# Altium schematic symbol library kmilo17pet-dsPIC33F.SchLib: 775 symbols (part 24 of 44)
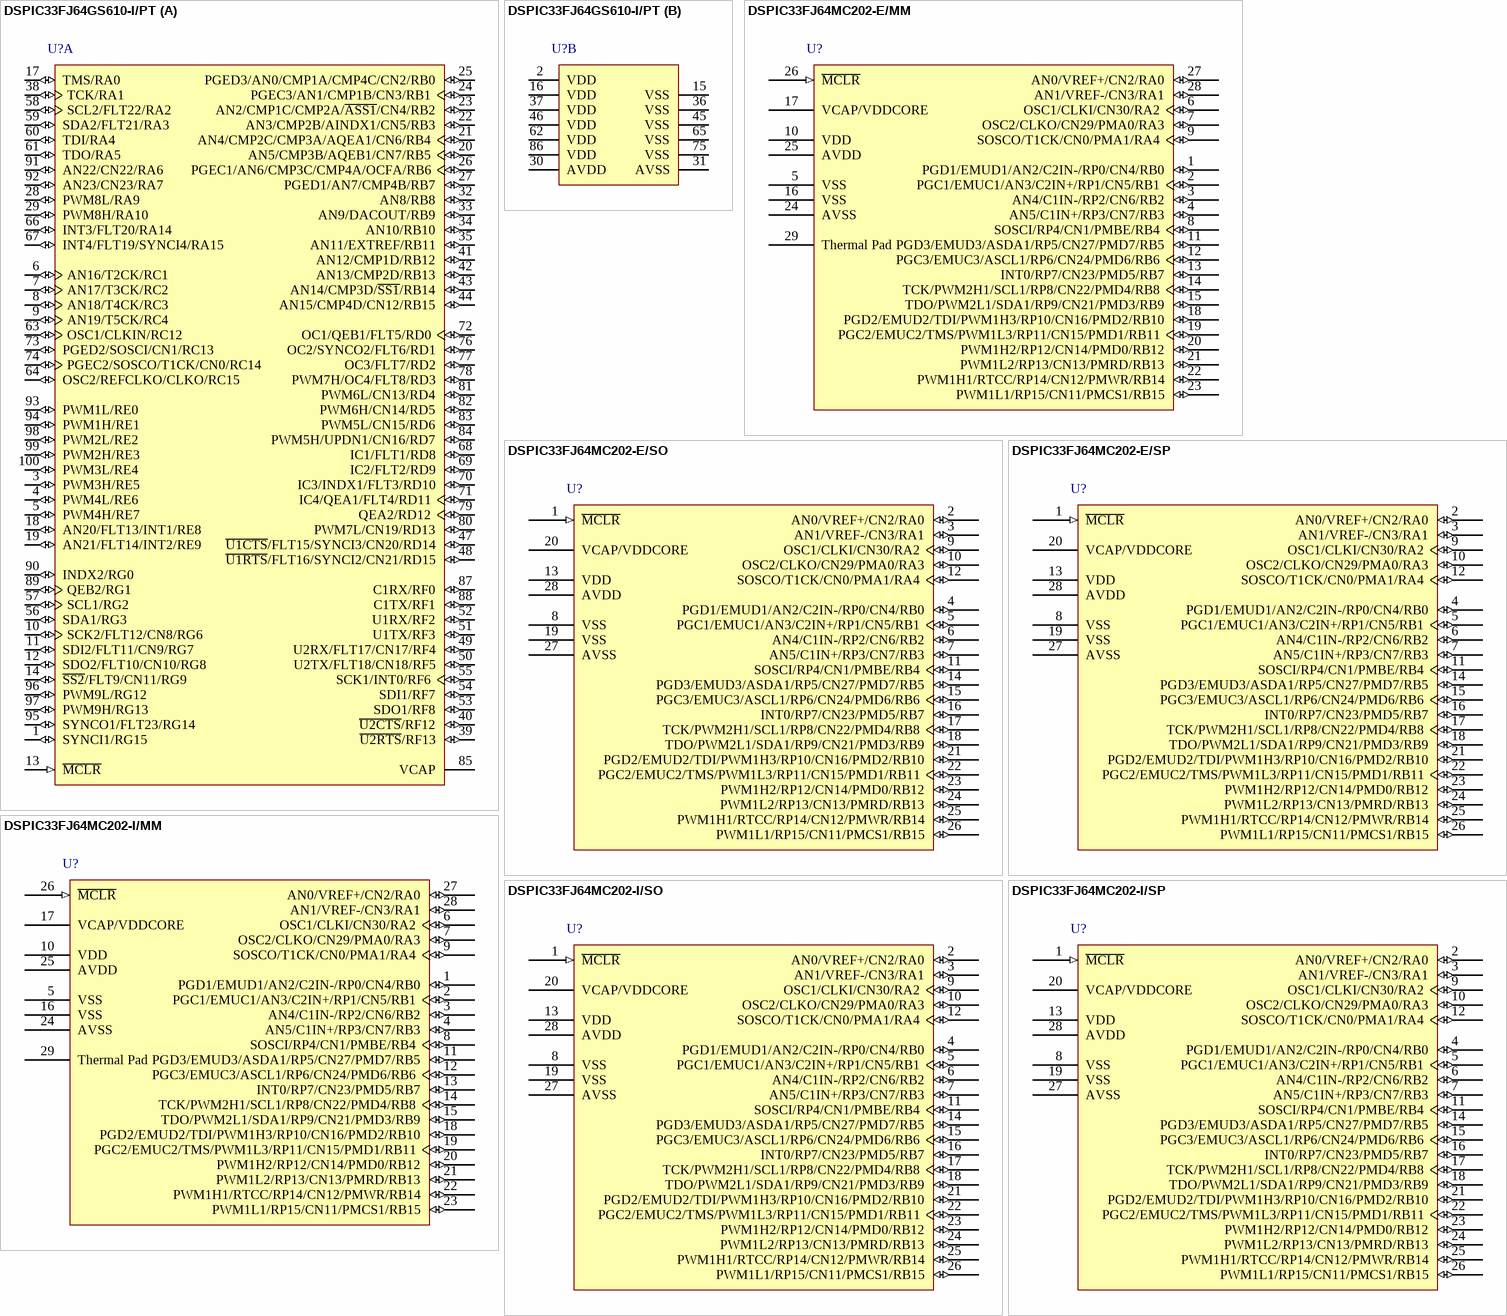
[diagram p181: symbols DSPIC33FJ64GS610-I/PT to DSPIC33FJ64MC202-I/SP]

## DSPIC33FJ64GS610-I/PT
designator U?
16-Bit Digital Signal Controller with High-Speed PWM, ADC and Comparators, 50 MIPS, 85 I/O, GPIO, -40 to 85 degC, 100-pin TQFP (PT100), Tray; Manufacturer: Microchip; PartNumber: DSPIC33FJ64GS610-I/PT; DatasheetVersion: Rev. E; PackageVersion: C04-100B; PackageReference: TQFP-PT100; PackageDescription: 100-Lead Plastic Thin Quad Flatpack, 12 x 12 mm Body, 0.4 mm Pitch; Supplier 1: Digi-Key; Supplier Part Number 1: DSPIC33FJ64GS610-I/PT-ND; Supplier 2: Farnell; Supplier Part Number 2: 1823294MPKG; Supplier 3: Farnell; Supplier Part Number 3: 1823294; Supplier 4: Newark; Supplier Part Number 4: 08R1566; Supplier 5: Mouser; Supplier Part Number 5: 579-33FJ64GS610-I/PT; Mounting Technology: Surface Mount; ComponentLink1Description: Manufacturer URL; ComponentLink1URL: http://www.microchip.com; ComponentLink2Description: Datasheet; ComponentLink2URL: http://ww1.microchip.com/downloads/en/DeviceDoc/70591e.pdf; ComponentLink3Description: Package Specification; ComponentLink3URL: http://www.microchip.com/stellent/groups/techpub_sg/documents/packagingspec/en012702.pdf; ComponentLink4Description: Product URL; ComponentLink4URL: http://www.microchip.com/dsPIC33FJ64GS610
footprint MCHP-TQFP-PT100_N (QFP, 100-Leads, Body 12x12mm, Pitch 0.4mm, IPC Medium Density)
footprint MCHP-TQFP-PT100_L (QFP, 100-Leads, Body 12x12mm, Pitch 0.4mm, IPC High Density)
footprint MCHP-TQFP-PT100_M (TQFP, 100-Leads, Body 12x12mm, Pitch 0.4mm, IPC Low Density)
part A pins: 1 SYNCI1/RG15 (io), 3 PWM3H/RE5 (io), 4 PWM4L/RE6 (io), 5 PWM4H/RE7 (io), 6 AN16/T2CK/RC1 (io), 7 AN17/T3CK/RC2 (io), 8 AN18/T4CK/RC3 (io), 9 AN19/T5CK/RC4 (io), 10 SCK2/FLT12/CN8/RG6 (io), 11 SDI2/FLT11/CN9/RG7 (io), 12 SDO2/FLT10/CN10/RG8 (io), 13 ~{MCLR} (in) "Master Clear (Reset) input. This pin is an active-low Reset to the device.", 14 ~{SS2}/FLT9/CN11/RG9 (io), 17 TMS/RA0 (io), 18 AN20/FLT13/INT1/RE8 (io), 19 AN21/FLT14/INT2/RE9 (io), 20 AN5/CMP3B/AQEB1/CN7/RB5 (io), 21 AN4/CMP2C/CMP3A/AQEA1/CN6/RB4 (io), 22 AN3/CMP2B/AINDX1/CN5/RB3 (io), 23 AN2/CMP1C/CMP2A/~{ASS1}/CN4/RB2 (io), 24 PGEC3/AN1/CMP1B/CN3/RB1 (io), 25 PGED3/AN0/CMP1A/CMP4C/CN2/RB0 (io), 26 PGEC1/AN6/CMP3C/CMP4A/OCFA/RB6 (io), 27 PGED1/AN7/CMP4B/RB7 (io), 28 PWM8L/RA9 (io), 29 PWM8H/RA10 (io), 32 AN8/RB8 (io), 33 AN9/DACOUT/RB9 (io), 34 AN10/RB10 (io), 35 AN11/EXTREF/RB11 (io), 38 TCK/RA1 (io), 39 ~{U2RTS}/RF13 (io), 40 ~{U2CTS}/RF12 (io), 41 AN12/CMP1D/RB12 (io), 42 AN13/CMP2D/RB13 (io), 43 AN14/CMP3D/~{SS1}/RB14 (io), 44 AN15/CMP4D/CN12/RB15 (io), 47 ~{U1CTS}/FLT15/SYNCI3/CN20/RD14 (io), 48 ~{U1RTS}/FLT16/SYNCI2/CN21/RD15 (io), 49 U2RX/FLT17/CN17/RF4 (io), 50 U2TX/FLT18/CN18/RF5 (io), 51 U1TX/RF3 (io), 52 U1RX/RF2 (io), 53 SDO1/RF8 (io), 54 SDI1/RF7 (io), 55 SCK1/INT0/RF6 (io), 56 SDA1/RG3 (io), 57 SCL1/RG2 (io), 58 SCL2/FLT22/RA2 (io), 59 SDA2/FLT21/RA3 (io), 60 TDI/RA4 (io), 61 TDO/RA5 (io), 63 OSC1/CLKIN/RC12 (io), 64 OSC2/REFCLKO/CLKO/RC15 (io), 66 INT3/FLT20/RA14 (io), 67 INT4/FLT19/SYNCI4/RA15 (io), 68 IC1/FLT1/RD8 (io), 69 IC2/FLT2/RD9 (io), 70 IC3/INDX1/FLT3/RD10 (io), 71 IC4/QEA1/FLT4/RD11 (io), 72 OC1/QEB1/FLT5/RD0 (io), 73 PGED2/SOSCI/CN1/RC13 (io), 74 PGEC2/SOSCO/T1CK/CN0/RC14 (io), 76 OC2/SYNCO2/FLT6/RD1 (io), 77 OC3/FLT7/RD2 (io), 78 PWM7H/OC4/FLT8/RD3 (io), 79 QEA2/RD12 (io), 80 PWM7L/CN19/RD13 (io), 81 PWM6L/CN13/RD4 (io), 82 PWM6H/CN14/RD5 (io), 83 PWM5L/CN15/RD6 (io), 84 PWM5H/UPDN1/CN16/RD7 (io), 85 VCAP "CPU logic filter capacitor connection.", 87 C1RX/RF0 (io), 88 C1TX/RF1 (io), 89 QEB2/RG1 (io), 90 INDX2/RG0 (io), 91 AN22/CN22/RA6 (io), 92 AN23/CN23/RA7 (io), 93 PWM1L/RE0 (io), 94 PWM1H/RE1 (io), 95 SYNCO1/FLT23/RG14 (io), 96 PWM9L/RG12 (io), 97 PWM9H/RG13 (io), 98 PWM2L/RE2 (io), 99 PWM2H/RE3 (io), 100 PWM3L/RE4 (io)
part B pins: 2 VDD (power) "Positive supply for peripheral logic and I/O pins.", 15 VSS (power) "Ground reference for logic and I/O pins.", 16 VDD (power) "Positive supply for peripheral logic and I/O pins.", 30 AVDD (power) "Positive supply for analog modules. This pin must be connected at all times.", 31 AVSS (power) "Ground reference for analog modules.", 36 VSS (power) "Ground reference for logic and I/O pins.", 37 VDD (power) "Positive supply for peripheral logic and I/O pins.", 45 VSS (power) "Ground reference for logic and I/O pins.", 46 VDD (power) "Positive supply for peripheral logic and I/O pins.", 62 VDD (power) "Positive supply for peripheral logic and I/O pins.", 65 VSS (power) "Ground reference for logic and I/O pins.", 75 VSS (power) "Ground reference for logic and I/O pins.", 86 VDD (power) "Positive supply for peripheral logic and I/O pins."

## DSPIC33FJ64MC202-E/MM
designator U?
High-Performance 16-bit Digital Signal Controller, 64 KB Flash, 8 KB RAM, 28-Pin QFN, Extended High Temperature; Manufacturer: Microchip; PartNumber: DSPIC33FJ64MC202-E/MM; DatasheetVersion: revD, Nov-2009; PackageVersion: revBB, Aug-2009; PackageReference: QFNS-MM28; PackageDescription: 28-Lead Plastic Quad Flat, No Lead Package (MM) - 6x6x0.9 mm Body [QFN-S] with 0.40 mm Contact Length; Supplier 1: Digi-Key; Supplier Part Number 1: DSPIC33FJ64MC202-E/MM-ND; Supplier 2: Mouser; Supplier Part Number 2: 579-PIC33FJ64MC20EMM; Mounting Technology: Surface Mount; ComponentLink1Description: Manufacturer URL; ComponentLink1URL: http://www.microchip.com/; ComponentLink2Description: Datasheet; ComponentLink2URL: http://ww1.microchip.com/downloads/en/DeviceDoc/70291D.pdf; ComponentLink3Description: Package Specification; ComponentLink3URL: http://www.microchip.com/stellent/groups/techpub_sg/documents/packagingspec/en012702.pdf
footprint QFNS-MM28_N (QFN, 28-Leads, Body 6x6mm, Pitch 0.65mm, Thermal Pad 4.7x4.7mm, IPC Medium Density)
footprint QFNS-MM28_L (QFN, 28-Leads, Body 6x6mm, Pitch 0.65mm, Thermal Pad 4.7x4.7mm, IPC High Density)
footprint QFNS-MM28_M (QFN, 28-Leads, Body 6x6mm, Pitch 0.65mm, Thermal Pad 4.7x4.7mm, IPC Low Density)
pins: 1 PGD1/EMUD1/AN2/C2IN-/RP0/CN4/RB0 (io), 2 PGC1/EMUC1/AN3/C2IN+/RP1/CN5/RB1 (io), 3 AN4/C1IN-/RP2/CN6/RB2 (io), 4 AN5/C1IN+/RP3/CN7/RB3 (io), 5 VSS (power), 6 OSC1/CLKI/CN30/RA2 (io), 7 OSC2/CLKO/CN29/PMA0/RA3 (io), 8 SOSCI/RP4/CN1/PMBE/RB4 (io), 9 SOSCO/T1CK/CN0/PMA1/RA4 (io), 10 VDD (power), 11 PGD3/EMUD3/ASDA1/RP5/CN27/PMD7/RB5 (io), 12 PGC3/EMUC3/ASCL1/RP6/CN24/PMD6/RB6 (io), 13 INT0/RP7/CN23/PMD5/RB7 (io), 14 TCK/PWM2H1/SCL1/RP8/CN22/PMD4/RB8 (io), 15 TDO/PWM2L1/SDA1/RP9/CN21/PMD3/RB9 (io), 16 VSS (power), 17 VCAP/VDDCORE (power), 18 PGD2/EMUD2/TDI/PWM1H3/RP10/CN16/PMD2/RB10 (io), 19 PGC2/EMUC2/TMS/PWM1L3/RP11/CN15/PMD1/RB11 (io), 20 PWM1H2/RP12/CN14/PMD0/RB12 (io), 21 PWM1L2/RP13/CN13/PMRD/RB13 (io), 22 PWM1H1/RTCC/RP14/CN12/PMWR/RB14 (io), 23 PWM1L1/RP15/CN11/PMCS1/RB15 (io), 24 AVSS (power), 25 AVDD (power), 26 ~{MCLR} (in), 27 AN0/VREF+/CN2/RA0 (io), 28 AN1/VREF-/CN3/RA1 (io), 29 Thermal Pad

## DSPIC33FJ64MC202-E/SO
designator U?
High-Performance 16-bit Digital Signal Controller, 64 KB Flash, 8 KB RAM, 28-Pin SOIC, Extended High Temperature; Manufacturer: Microchip; PartNumber: DSPIC33FJ64MC202-E/SO; DatasheetVersion: revD, Nov-2009; PackageVersion: revBB, Aug-2009; PackageReference: SOIC-SO28; PackageDescription: 28-Lead Plastic Small Outline (SO) - Wide 7.50mm Body [SOIC]; Supplier 1: Digi-Key; Supplier Part Number 1: DSPIC33FJ64MC202-E/SO-ND; Supplier 2: Mouser; Supplier Part Number 2: 579-DSPIC364MC202ESO; Mounting Technology: Surface Mount; Code_JEDEC: MS-013; ComponentLink1Description: Manufacturer URL; ComponentLink1URL: http://www.microchip.com/; ComponentLink2Description: Datasheet; ComponentLink2URL: http://ww1.microchip.com/downloads/en/DeviceDoc/70291D.pdf; ComponentLink3Description: Package Specification; ComponentLink3URL: http://www.microchip.com/stellent/groups/techpub_sg/documents/packagingspec/en012702.pdf
footprint SOIC-SO28_N (SOIC, 28-Leads, Body 17.9x7.5mm, Pitch 1.27mm, IPC Medium Density)
footprint SOIC-SO28_L (SOIC, 28-Leads, Body 17.9x7.5mm, Pitch 1.27mm, IPC High Density)
footprint SOIC-SO28_M (SOIC, 28-Leads, Body 17.9x7.5mm, Pitch 1.27mm, IPC Low Density)
pins: 1 ~{MCLR} (in), 2 AN0/VREF+/CN2/RA0 (io), 3 AN1/VREF-/CN3/RA1 (io), 4 PGD1/EMUD1/AN2/C2IN-/RP0/CN4/RB0 (io), 5 PGC1/EMUC1/AN3/C2IN+/RP1/CN5/RB1 (io), 6 AN4/C1IN-/RP2/CN6/RB2 (io), 7 AN5/C1IN+/RP3/CN7/RB3 (io), 8 VSS (power), 9 OSC1/CLKI/CN30/RA2 (io), 10 OSC2/CLKO/CN29/PMA0/RA3 (io), 11 SOSCI/RP4/CN1/PMBE/RB4 (io), 12 SOSCO/T1CK/CN0/PMA1/RA4 (io), 13 VDD (power), 14 PGD3/EMUD3/ASDA1/RP5/CN27/PMD7/RB5 (io), 15 PGC3/EMUC3/ASCL1/RP6/CN24/PMD6/RB6 (io), 16 INT0/RP7/CN23/PMD5/RB7 (io), 17 TCK/PWM2H1/SCL1/RP8/CN22/PMD4/RB8 (io), 18 TDO/PWM2L1/SDA1/RP9/CN21/PMD3/RB9 (io), 19 VSS (power), 20 VCAP/VDDCORE (power), 21 PGD2/EMUD2/TDI/PWM1H3/RP10/CN16/PMD2/RB10 (io), 22 PGC2/EMUC2/TMS/PWM1L3/RP11/CN15/PMD1/RB11 (io), 23 PWM1H2/RP12/CN14/PMD0/RB12 (io), 24 PWM1L2/RP13/CN13/PMRD/RB13 (io), 25 PWM1H1/RTCC/RP14/CN12/PMWR/RB14 (io), 26 PWM1L1/RP15/CN11/PMCS1/RB15 (io), 27 AVSS (power), 28 AVDD (power)

## DSPIC33FJ64MC202-E/SP
designator U?
High-Performance 16-bit Digital Signal Controller, 64 KB Flash, 8 KB RAM, 28-Pin SPDIP, Extended High Temperature; Manufacturer: Microchip; PartNumber: DSPIC33FJ64MC202-E/SP; DatasheetVersion: revD, Nov-2009; PackageVersion: revBB, Aug-2009; PackageReference: SPDIP300-SP28; PackageDescription: 28-Lead Skinny Plastic Dual In-Line (SP) - 300 mil Body [SPDIP]; Supplier 1: Digi-Key; Supplier Part Number 1: DSPIC33FJ64MC202-E/SP-ND; Supplier 2: Mouser; Supplier Part Number 2: 579-PIC33FJ64MC20ESP; Mounting Technology: Through Hole; ComponentLink1Description: Manufacturer URL; ComponentLink1URL: http://www.microchip.com/; ComponentLink2Description: Datasheet; ComponentLink2URL: http://ww1.microchip.com/downloads/en/DeviceDoc/70291D.pdf; ComponentLink3Description: Package Specification; ComponentLink3URL: http://www.microchip.com/stellent/groups/techpub_sg/documents/packagingspec/en012702.pdf
footprint SPDIP300-SP28 (DIP, 28-Leads, Row Spacing 7.62mm, Pitch 2.54mm, Body 34.9x6.8mm)
pins: 1 ~{MCLR} (in), 2 AN0/VREF+/CN2/RA0 (io), 3 AN1/VREF-/CN3/RA1 (io), 4 PGD1/EMUD1/AN2/C2IN-/RP0/CN4/RB0 (io), 5 PGC1/EMUC1/AN3/C2IN+/RP1/CN5/RB1 (io), 6 AN4/C1IN-/RP2/CN6/RB2 (io), 7 AN5/C1IN+/RP3/CN7/RB3 (io), 8 VSS (power), 9 OSC1/CLKI/CN30/RA2 (io), 10 OSC2/CLKO/CN29/PMA0/RA3 (io), 11 SOSCI/RP4/CN1/PMBE/RB4 (io), 12 SOSCO/T1CK/CN0/PMA1/RA4 (io), 13 VDD (power), 14 PGD3/EMUD3/ASDA1/RP5/CN27/PMD7/RB5 (io), 15 PGC3/EMUC3/ASCL1/RP6/CN24/PMD6/RB6 (io), 16 INT0/RP7/CN23/PMD5/RB7 (io), 17 TCK/PWM2H1/SCL1/RP8/CN22/PMD4/RB8 (io), 18 TDO/PWM2L1/SDA1/RP9/CN21/PMD3/RB9 (io), 19 VSS (power), 20 VCAP/VDDCORE (power), 21 PGD2/EMUD2/TDI/PWM1H3/RP10/CN16/PMD2/RB10 (io), 22 PGC2/EMUC2/TMS/PWM1L3/RP11/CN15/PMD1/RB11 (io), 23 PWM1H2/RP12/CN14/PMD0/RB12 (io), 24 PWM1L2/RP13/CN13/PMRD/RB13 (io), 25 PWM1H1/RTCC/RP14/CN12/PMWR/RB14 (io), 26 PWM1L1/RP15/CN11/PMCS1/RB15 (io), 27 AVSS (power), 28 AVDD (power)

## DSPIC33FJ64MC202-I/MM
designator U?
High-Performance 16-bit Digital Signal Controller, 64 KB Flash, 8 KB RAM, 28-Pin QFN, Industrial Temperature; Manufacturer: Microchip; PartNumber: DSPIC33FJ64MC202-I/MM; DatasheetVersion: revD, Nov-2009; PackageVersion: revBB, Aug-2009; PackageReference: QFNS-MM28; PackageDescription: 28-Lead Plastic Quad Flat, No Lead Package (MM) - 6x6x0.9 mm Body [QFN-S] with 0.40 mm Contact Length; Supplier 1: Digi-Key; Supplier Part Number 1: DSPIC33FJ64MC202-I/MM-ND; Supplier 2: Farnell; Supplier Part Number 2: 1576833; Supplier 3: Newark; Supplier Part Number 3: 77M2377; Supplier 4: Mouser; Supplier Part Number 4: 579-DSPIC334MC202IMM; Mounting Technology: Surface Mount; ComponentLink1Description: Manufacturer URL; ComponentLink1URL: http://www.microchip.com/; ComponentLink2Description: Datasheet; ComponentLink2URL: http://ww1.microchip.com/downloads/en/DeviceDoc/70291D.pdf; ComponentLink3Description: Package Specification; ComponentLink3URL: http://www.microchip.com/stellent/groups/techpub_sg/documents/packagingspec/en012702.pdf
footprint QFNS-MM28_N (QFN, 28-Leads, Body 6x6mm, Pitch 0.65mm, Thermal Pad 4.7x4.7mm, IPC Medium Density)
footprint QFNS-MM28_L (QFN, 28-Leads, Body 6x6mm, Pitch 0.65mm, Thermal Pad 4.7x4.7mm, IPC High Density)
footprint QFNS-MM28_M (QFN, 28-Leads, Body 6x6mm, Pitch 0.65mm, Thermal Pad 4.7x4.7mm, IPC Low Density)
pins: 1 PGD1/EMUD1/AN2/C2IN-/RP0/CN4/RB0 (io), 2 PGC1/EMUC1/AN3/C2IN+/RP1/CN5/RB1 (io), 3 AN4/C1IN-/RP2/CN6/RB2 (io), 4 AN5/C1IN+/RP3/CN7/RB3 (io), 5 VSS (power), 6 OSC1/CLKI/CN30/RA2 (io), 7 OSC2/CLKO/CN29/PMA0/RA3 (io), 8 SOSCI/RP4/CN1/PMBE/RB4 (io), 9 SOSCO/T1CK/CN0/PMA1/RA4 (io), 10 VDD (power), 11 PGD3/EMUD3/ASDA1/RP5/CN27/PMD7/RB5 (io), 12 PGC3/EMUC3/ASCL1/RP6/CN24/PMD6/RB6 (io), 13 INT0/RP7/CN23/PMD5/RB7 (io), 14 TCK/PWM2H1/SCL1/RP8/CN22/PMD4/RB8 (io), 15 TDO/PWM2L1/SDA1/RP9/CN21/PMD3/RB9 (io), 16 VSS (power), 17 VCAP/VDDCORE (power), 18 PGD2/EMUD2/TDI/PWM1H3/RP10/CN16/PMD2/RB10 (io), 19 PGC2/EMUC2/TMS/PWM1L3/RP11/CN15/PMD1/RB11 (io), 20 PWM1H2/RP12/CN14/PMD0/RB12 (io), 21 PWM1L2/RP13/CN13/PMRD/RB13 (io), 22 PWM1H1/RTCC/RP14/CN12/PMWR/RB14 (io), 23 PWM1L1/RP15/CN11/PMCS1/RB15 (io), 24 AVSS (power), 25 AVDD (power), 26 ~{MCLR} (in), 27 AN0/VREF+/CN2/RA0 (io), 28 AN1/VREF-/CN3/RA1 (io), 29 Thermal Pad

## DSPIC33FJ64MC202-I/SO
designator U?
High-Performance 16-bit Digital Signal Controller, 64 KB Flash, 8 KB RAM, 28-Pin SOIC, Industrial Temperature; Manufacturer: Microchip; PartNumber: DSPIC33FJ64MC202-I/SO; DatasheetVersion: revD, Nov-2009; PackageVersion: revBB, Aug-2009; PackageReference: SOIC-SO28; PackageDescription: 28-Lead Plastic Small Outline (SO) - Wide 7.50mm Body [SOIC]; Supplier 1: Digi-Key; Supplier Part Number 1: DSPIC33FJ64MC202-I/SO-ND; Supplier 2: Newark; Supplier Part Number 2: 39M8235; Supplier 3: Mouser; Supplier Part Number 3: 579-DSPIC364MC202ISO; Mounting Technology: Surface Mount; Code_JEDEC: MS-013; ComponentLink1Description: Manufacturer URL; ComponentLink1URL: http://www.microchip.com/; ComponentLink2Description: Datasheet; ComponentLink2URL: http://ww1.microchip.com/downloads/en/DeviceDoc/70291D.pdf; ComponentLink3Description: Package Specification; ComponentLink3URL: http://www.microchip.com/stellent/groups/techpub_sg/documents/packagingspec/en012702.pdf
footprint SOIC-SO28_N (SOIC, 28-Leads, Body 17.9x7.5mm, Pitch 1.27mm, IPC Medium Density)
footprint SOIC-SO28_L (SOIC, 28-Leads, Body 17.9x7.5mm, Pitch 1.27mm, IPC High Density)
footprint SOIC-SO28_M (SOIC, 28-Leads, Body 17.9x7.5mm, Pitch 1.27mm, IPC Low Density)
pins: 1 ~{MCLR} (in), 2 AN0/VREF+/CN2/RA0 (io), 3 AN1/VREF-/CN3/RA1 (io), 4 PGD1/EMUD1/AN2/C2IN-/RP0/CN4/RB0 (io), 5 PGC1/EMUC1/AN3/C2IN+/RP1/CN5/RB1 (io), 6 AN4/C1IN-/RP2/CN6/RB2 (io), 7 AN5/C1IN+/RP3/CN7/RB3 (io), 8 VSS (power), 9 OSC1/CLKI/CN30/RA2 (io), 10 OSC2/CLKO/CN29/PMA0/RA3 (io), 11 SOSCI/RP4/CN1/PMBE/RB4 (io), 12 SOSCO/T1CK/CN0/PMA1/RA4 (io), 13 VDD (power), 14 PGD3/EMUD3/ASDA1/RP5/CN27/PMD7/RB5 (io), 15 PGC3/EMUC3/ASCL1/RP6/CN24/PMD6/RB6 (io), 16 INT0/RP7/CN23/PMD5/RB7 (io), 17 TCK/PWM2H1/SCL1/RP8/CN22/PMD4/RB8 (io), 18 TDO/PWM2L1/SDA1/RP9/CN21/PMD3/RB9 (io), 19 VSS (power), 20 VCAP/VDDCORE (power), 21 PGD2/EMUD2/TDI/PWM1H3/RP10/CN16/PMD2/RB10 (io), 22 PGC2/EMUC2/TMS/PWM1L3/RP11/CN15/PMD1/RB11 (io), 23 PWM1H2/RP12/CN14/PMD0/RB12 (io), 24 PWM1L2/RP13/CN13/PMRD/RB13 (io), 25 PWM1H1/RTCC/RP14/CN12/PMWR/RB14 (io), 26 PWM1L1/RP15/CN11/PMCS1/RB15 (io), 27 AVSS (power), 28 AVDD (power)

## DSPIC33FJ64MC202-I/SP
designator U?
High-Performance 16-bit Digital Signal Controller, 64 KB Flash, 8 KB RAM, 28-Pin SPDIP, Industrial Temperature; Manufacturer: Microchip; PartNumber: DSPIC33FJ64MC202-I/SP; DatasheetVersion: revD, Nov-2009; PackageVersion: revBB, Aug-2009; PackageReference: SPDIP300-SP28; PackageDescription: 28-Lead Skinny Plastic Dual In-Line (SP) - 300 mil Body [SPDIP]; Supplier 1: Digi-Key; Supplier Part Number 1: DSPIC33FJ64MC202-I/SP-ND; Supplier 2: Farnell; Supplier Part Number 2: 1576836; Supplier 3: Newark; Supplier Part Number 3: 39M8236; Supplier 4: Mouser; Supplier Part Number 4: 579-DSPIC364MC202ISP; Mounting Technology: Through Hole; ComponentLink1Description: Manufacturer URL; ComponentLink1URL: http://www.microchip.com/; ComponentLink2Description: Datasheet; ComponentLink2URL: http://ww1.microchip.com/downloads/en/DeviceDoc/70291D.pdf; ComponentLink3Description: Package Specification; ComponentLink3URL: http://www.microchip.com/stellent/groups/techpub_sg/documents/packagingspec/en012702.pdf
footprint SPDIP300-SP28 (DIP, 28-Leads, Row Spacing 7.62mm, Pitch 2.54mm, Body 34.9x6.8mm)
pins: 1 ~{MCLR} (in), 2 AN0/VREF+/CN2/RA0 (io), 3 AN1/VREF-/CN3/RA1 (io), 4 PGD1/EMUD1/AN2/C2IN-/RP0/CN4/RB0 (io), 5 PGC1/EMUC1/AN3/C2IN+/RP1/CN5/RB1 (io), 6 AN4/C1IN-/RP2/CN6/RB2 (io), 7 AN5/C1IN+/RP3/CN7/RB3 (io), 8 VSS (power), 9 OSC1/CLKI/CN30/RA2 (io), 10 OSC2/CLKO/CN29/PMA0/RA3 (io), 11 SOSCI/RP4/CN1/PMBE/RB4 (io), 12 SOSCO/T1CK/CN0/PMA1/RA4 (io), 13 VDD (power), 14 PGD3/EMUD3/ASDA1/RP5/CN27/PMD7/RB5 (io), 15 PGC3/EMUC3/ASCL1/RP6/CN24/PMD6/RB6 (io), 16 INT0/RP7/CN23/PMD5/RB7 (io), 17 TCK/PWM2H1/SCL1/RP8/CN22/PMD4/RB8 (io), 18 TDO/PWM2L1/SDA1/RP9/CN21/PMD3/RB9 (io), 19 VSS (power), 20 VCAP/VDDCORE (power), 21 PGD2/EMUD2/TDI/PWM1H3/RP10/CN16/PMD2/RB10 (io), 22 PGC2/EMUC2/TMS/PWM1L3/RP11/CN15/PMD1/RB11 (io), 23 PWM1H2/RP12/CN14/PMD0/RB12 (io), 24 PWM1L2/RP13/CN13/PMRD/RB13 (io), 25 PWM1H1/RTCC/RP14/CN12/PMWR/RB14 (io), 26 PWM1L1/RP15/CN11/PMCS1/RB15 (io), 27 AVSS (power), 28 AVDD (power)

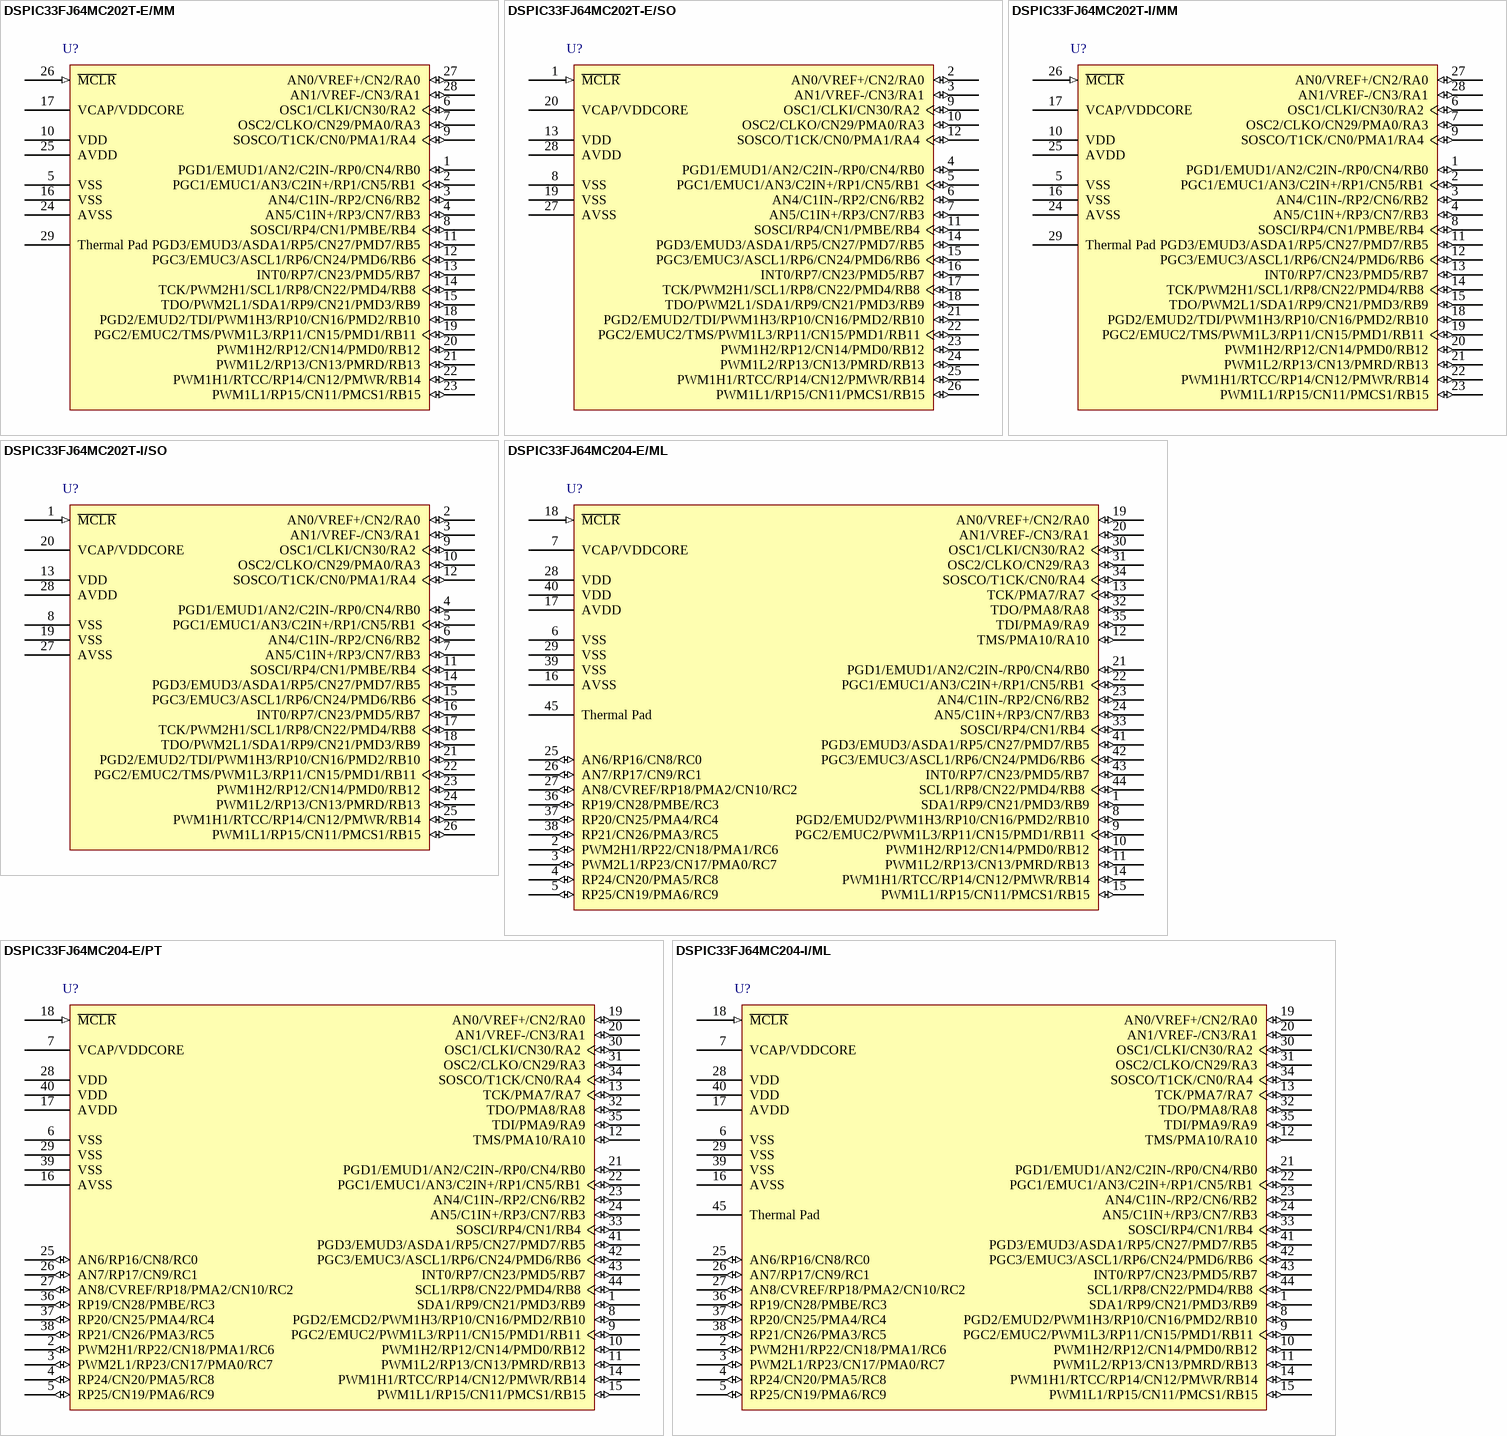
[diagram p77: symbols DSPIC33FJ64MC202T-E/MM to DSPIC33FJ64MC204-I/ML]

## DSPIC33FJ64MC202T-E/MM
designator U?
High-Performance 16-bit Digital Signal Controller, 64 KB Flash, 8 KB RAM, 28-Pin QFN, Extended High Temperature, Tape and Reel; Manufacturer: Microchip; PartNumber: DSPIC33FJ64MC202T-E/MM; DatasheetVersion: revD, Nov-2009; PackageVersion: revBB, Aug-2009; PackageReference: QFNS-MM28; PackageDescription: 28-Lead Plastic Quad Flat, No Lead Package (MM) - 6x6x0.9 mm Body [QFN-S] with 0.40 mm Contact Length; Mounting Technology: Surface Mount; ComponentLink1Description: Manufacturer URL; ComponentLink1URL: http://www.microchip.com/; ComponentLink2Description: Datasheet; ComponentLink2URL: http://ww1.microchip.com/downloads/en/DeviceDoc/70291D.pdf; ComponentLink3Description: Package Specification; ComponentLink3URL: http://www.microchip.com/stellent/groups/techpub_sg/documents/packagingspec/en012702.pdf
footprint QFNS-MM28_N (QFN, 28-Leads, Body 6x6mm, Pitch 0.65mm, Thermal Pad 4.7x4.7mm, IPC Medium Density)
footprint QFNS-MM28_L (QFN, 28-Leads, Body 6x6mm, Pitch 0.65mm, Thermal Pad 4.7x4.7mm, IPC High Density)
footprint QFNS-MM28_M (QFN, 28-Leads, Body 6x6mm, Pitch 0.65mm, Thermal Pad 4.7x4.7mm, IPC Low Density)
pins: 1 PGD1/EMUD1/AN2/C2IN-/RP0/CN4/RB0 (io), 2 PGC1/EMUC1/AN3/C2IN+/RP1/CN5/RB1 (io), 3 AN4/C1IN-/RP2/CN6/RB2 (io), 4 AN5/C1IN+/RP3/CN7/RB3 (io), 5 VSS (power), 6 OSC1/CLKI/CN30/RA2 (io), 7 OSC2/CLKO/CN29/PMA0/RA3 (io), 8 SOSCI/RP4/CN1/PMBE/RB4 (io), 9 SOSCO/T1CK/CN0/PMA1/RA4 (io), 10 VDD (power), 11 PGD3/EMUD3/ASDA1/RP5/CN27/PMD7/RB5 (io), 12 PGC3/EMUC3/ASCL1/RP6/CN24/PMD6/RB6 (io), 13 INT0/RP7/CN23/PMD5/RB7 (io), 14 TCK/PWM2H1/SCL1/RP8/CN22/PMD4/RB8 (io), 15 TDO/PWM2L1/SDA1/RP9/CN21/PMD3/RB9 (io), 16 VSS (power), 17 VCAP/VDDCORE (power), 18 PGD2/EMUD2/TDI/PWM1H3/RP10/CN16/PMD2/RB10 (io), 19 PGC2/EMUC2/TMS/PWM1L3/RP11/CN15/PMD1/RB11 (io), 20 PWM1H2/RP12/CN14/PMD0/RB12 (io), 21 PWM1L2/RP13/CN13/PMRD/RB13 (io), 22 PWM1H1/RTCC/RP14/CN12/PMWR/RB14 (io), 23 PWM1L1/RP15/CN11/PMCS1/RB15 (io), 24 AVSS (power), 25 AVDD (power), 26 ~{MCLR} (in), 27 AN0/VREF+/CN2/RA0 (io), 28 AN1/VREF-/CN3/RA1 (io), 29 Thermal Pad

## DSPIC33FJ64MC202T-E/SO
designator U?
High-Performance 16-bit Digital Signal Controller, 64 KB Flash, 8 KB RAM, 28-Pin SOIC, Extended High Temperature, Tape and Reel; Manufacturer: Microchip; PartNumber: DSPIC33FJ64MC202T-E/SO; DatasheetVersion: revD, Nov-2009; PackageVersion: revBB, Aug-2009; PackageReference: SOIC-SO28; PackageDescription: 28-Lead Plastic Small Outline (SO) - Wide 7.50mm Body [SOIC]; Mounting Technology: Surface Mount; Code_JEDEC: MS-013; ComponentLink1Description: Manufacturer URL; ComponentLink1URL: http://www.microchip.com/; ComponentLink2Description: Datasheet; ComponentLink2URL: http://ww1.microchip.com/downloads/en/DeviceDoc/70291D.pdf; ComponentLink3Description: Package Specification; ComponentLink3URL: http://www.microchip.com/stellent/groups/techpub_sg/documents/packagingspec/en012702.pdf
footprint SOIC-SO28_N (SOIC, 28-Leads, Body 17.9x7.5mm, Pitch 1.27mm, IPC Medium Density)
footprint SOIC-SO28_L (SOIC, 28-Leads, Body 17.9x7.5mm, Pitch 1.27mm, IPC High Density)
footprint SOIC-SO28_M (SOIC, 28-Leads, Body 17.9x7.5mm, Pitch 1.27mm, IPC Low Density)
pins: 1 ~{MCLR} (in), 2 AN0/VREF+/CN2/RA0 (io), 3 AN1/VREF-/CN3/RA1 (io), 4 PGD1/EMUD1/AN2/C2IN-/RP0/CN4/RB0 (io), 5 PGC1/EMUC1/AN3/C2IN+/RP1/CN5/RB1 (io), 6 AN4/C1IN-/RP2/CN6/RB2 (io), 7 AN5/C1IN+/RP3/CN7/RB3 (io), 8 VSS (power), 9 OSC1/CLKI/CN30/RA2 (io), 10 OSC2/CLKO/CN29/PMA0/RA3 (io), 11 SOSCI/RP4/CN1/PMBE/RB4 (io), 12 SOSCO/T1CK/CN0/PMA1/RA4 (io), 13 VDD (power), 14 PGD3/EMUD3/ASDA1/RP5/CN27/PMD7/RB5 (io), 15 PGC3/EMUC3/ASCL1/RP6/CN24/PMD6/RB6 (io), 16 INT0/RP7/CN23/PMD5/RB7 (io), 17 TCK/PWM2H1/SCL1/RP8/CN22/PMD4/RB8 (io), 18 TDO/PWM2L1/SDA1/RP9/CN21/PMD3/RB9 (io), 19 VSS (power), 20 VCAP/VDDCORE (power), 21 PGD2/EMUD2/TDI/PWM1H3/RP10/CN16/PMD2/RB10 (io), 22 PGC2/EMUC2/TMS/PWM1L3/RP11/CN15/PMD1/RB11 (io), 23 PWM1H2/RP12/CN14/PMD0/RB12 (io), 24 PWM1L2/RP13/CN13/PMRD/RB13 (io), 25 PWM1H1/RTCC/RP14/CN12/PMWR/RB14 (io), 26 PWM1L1/RP15/CN11/PMCS1/RB15 (io), 27 AVSS (power), 28 AVDD (power)

## DSPIC33FJ64MC202T-I/MM
designator U?
High-Performance 16-bit Digital Signal Controller, 64 KB Flash, 8 KB RAM, 28-Pin QFN, Industrial Temperature, Tape and Reel; Manufacturer: Microchip; PartNumber: DSPIC33FJ64MC202T-I/MM; DatasheetVersion: revD, Nov-2009; PackageVersion: revBB, Aug-2009; PackageReference: QFNS-MM28; PackageDescription: 28-Lead Plastic Quad Flat, No Lead Package (MM) - 6x6x0.9 mm Body [QFN-S] with 0.40 mm Contact Length; Supplier 1: Digi-Key; Supplier Part Number 1: DSPIC33FJ64MC202T-I/MM-ND; Supplier 2: Mouser; Supplier Part Number 2: 579-DSPIC33MC202TIMM; Mounting Technology: Surface Mount; ComponentLink1Description: Manufacturer URL; ComponentLink1URL: http://www.microchip.com/; ComponentLink2Description: Datasheet; ComponentLink2URL: http://ww1.microchip.com/downloads/en/DeviceDoc/70291D.pdf; ComponentLink3Description: Package Specification; ComponentLink3URL: http://www.microchip.com/stellent/groups/techpub_sg/documents/packagingspec/en012702.pdf
footprint QFNS-MM28_N (QFN, 28-Leads, Body 6x6mm, Pitch 0.65mm, Thermal Pad 4.7x4.7mm, IPC Medium Density)
footprint QFNS-MM28_L (QFN, 28-Leads, Body 6x6mm, Pitch 0.65mm, Thermal Pad 4.7x4.7mm, IPC High Density)
footprint QFNS-MM28_M (QFN, 28-Leads, Body 6x6mm, Pitch 0.65mm, Thermal Pad 4.7x4.7mm, IPC Low Density)
pins: 1 PGD1/EMUD1/AN2/C2IN-/RP0/CN4/RB0 (io), 2 PGC1/EMUC1/AN3/C2IN+/RP1/CN5/RB1 (io), 3 AN4/C1IN-/RP2/CN6/RB2 (io), 4 AN5/C1IN+/RP3/CN7/RB3 (io), 5 VSS (power), 6 OSC1/CLKI/CN30/RA2 (io), 7 OSC2/CLKO/CN29/PMA0/RA3 (io), 8 SOSCI/RP4/CN1/PMBE/RB4 (io), 9 SOSCO/T1CK/CN0/PMA1/RA4 (io), 10 VDD (power), 11 PGD3/EMUD3/ASDA1/RP5/CN27/PMD7/RB5 (io), 12 PGC3/EMUC3/ASCL1/RP6/CN24/PMD6/RB6 (io), 13 INT0/RP7/CN23/PMD5/RB7 (io), 14 TCK/PWM2H1/SCL1/RP8/CN22/PMD4/RB8 (io), 15 TDO/PWM2L1/SDA1/RP9/CN21/PMD3/RB9 (io), 16 VSS (power), 17 VCAP/VDDCORE (power), 18 PGD2/EMUD2/TDI/PWM1H3/RP10/CN16/PMD2/RB10 (io), 19 PGC2/EMUC2/TMS/PWM1L3/RP11/CN15/PMD1/RB11 (io), 20 PWM1H2/RP12/CN14/PMD0/RB12 (io), 21 PWM1L2/RP13/CN13/PMRD/RB13 (io), 22 PWM1H1/RTCC/RP14/CN12/PMWR/RB14 (io), 23 PWM1L1/RP15/CN11/PMCS1/RB15 (io), 24 AVSS (power), 25 AVDD (power), 26 ~{MCLR} (in), 27 AN0/VREF+/CN2/RA0 (io), 28 AN1/VREF-/CN3/RA1 (io), 29 Thermal Pad

## DSPIC33FJ64MC202T-I/SO
designator U?
High-Performance 16-bit Digital Signal Controller, 64 KB Flash, 8 KB RAM, 28-Pin SOIC, Industrial Temperature, Tape and Reel; Manufacturer: Microchip; PartNumber: DSPIC33FJ64MC202T-I/SO; DatasheetVersion: revD, Nov-2009; PackageVersion: revBB, Aug-2009; PackageReference: SOIC-SO28; PackageDescription: 28-Lead Plastic Small Outline (SO) - Wide 7.50mm Body [SOIC]; Supplier 1: Digi-Key; Supplier Part Number 1: DSPIC33FJ64MC202T-I/SOTR-ND; Supplier 2: Mouser; Supplier Part Number 2: 579-DSPIC64MC202TISO; Mounting Technology: Surface Mount; Code_JEDEC: MS-013; ComponentLink1Description: Manufacturer URL; ComponentLink1URL: http://www.microchip.com/; ComponentLink2Description: Datasheet; ComponentLink2URL: http://ww1.microchip.com/downloads/en/DeviceDoc/70291D.pdf; ComponentLink3Description: Package Specification; ComponentLink3URL: http://www.microchip.com/stellent/groups/techpub_sg/documents/packagingspec/en012702.pdf
footprint SOIC-SO28_N (SOIC, 28-Leads, Body 17.9x7.5mm, Pitch 1.27mm, IPC Medium Density)
footprint SOIC-SO28_L (SOIC, 28-Leads, Body 17.9x7.5mm, Pitch 1.27mm, IPC High Density)
footprint SOIC-SO28_M (SOIC, 28-Leads, Body 17.9x7.5mm, Pitch 1.27mm, IPC Low Density)
pins: 1 ~{MCLR} (in), 2 AN0/VREF+/CN2/RA0 (io), 3 AN1/VREF-/CN3/RA1 (io), 4 PGD1/EMUD1/AN2/C2IN-/RP0/CN4/RB0 (io), 5 PGC1/EMUC1/AN3/C2IN+/RP1/CN5/RB1 (io), 6 AN4/C1IN-/RP2/CN6/RB2 (io), 7 AN5/C1IN+/RP3/CN7/RB3 (io), 8 VSS (power), 9 OSC1/CLKI/CN30/RA2 (io), 10 OSC2/CLKO/CN29/PMA0/RA3 (io), 11 SOSCI/RP4/CN1/PMBE/RB4 (io), 12 SOSCO/T1CK/CN0/PMA1/RA4 (io), 13 VDD (power), 14 PGD3/EMUD3/ASDA1/RP5/CN27/PMD7/RB5 (io), 15 PGC3/EMUC3/ASCL1/RP6/CN24/PMD6/RB6 (io), 16 INT0/RP7/CN23/PMD5/RB7 (io), 17 TCK/PWM2H1/SCL1/RP8/CN22/PMD4/RB8 (io), 18 TDO/PWM2L1/SDA1/RP9/CN21/PMD3/RB9 (io), 19 VSS (power), 20 VCAP/VDDCORE (power), 21 PGD2/EMUD2/TDI/PWM1H3/RP10/CN16/PMD2/RB10 (io), 22 PGC2/EMUC2/TMS/PWM1L3/RP11/CN15/PMD1/RB11 (io), 23 PWM1H2/RP12/CN14/PMD0/RB12 (io), 24 PWM1L2/RP13/CN13/PMRD/RB13 (io), 25 PWM1H1/RTCC/RP14/CN12/PMWR/RB14 (io), 26 PWM1L1/RP15/CN11/PMCS1/RB15 (io), 27 AVSS (power), 28 AVDD (power)

## DSPIC33FJ64MC204-E/ML
designator U?
High-Performance 16-bit Digital Signal Controller, 64 KB Flash, 8 KB RAM, 44-Pin QFN, Extended High Temperature; Manufacturer: Microchip; PartNumber: DSPIC33FJ64MC204-E/ML; DatasheetVersion: revD, Nov-2009; PackageVersion: revBB, Aug-2009; PackageReference: QFN-ML44; PackageDescription: 44-Lead Plastic Quad Flat, No Lead Package (ML) - 8x8 mm Body [QFN]; Supplier 1: Digi-Key; Supplier Part Number 1: DSPIC33FJ64MC204-E/ML-ND; Supplier 2: Mouser; Supplier Part Number 2: N/A; Mounting Technology: Surface Mount; Code_JEDEC: MO-220; Code_IPC: QFN65P800X800-44V2; ComponentLink1Description: Manufacturer URL; ComponentLink1URL: http://www.microchip.com/; ComponentLink2Description: Datasheet; ComponentLink2URL: http://ww1.microchip.com/downloads/en/DeviceDoc/70291D.pdf; ComponentLink3Description: Package Specification; ComponentLink3URL: http://www.microchip.com/stellent/groups/techpub_sg/documents/packagingspec/en012702.pdf
footprint QFN-ML44_N (QFN, 44-Leads, Body 8x8mm, Pitch 0.65mm, Thermal Pad 6.8x6.8mm, IPC Medium Density)
footprint QFN-ML44_L (QFN, 44-Leads, Body 8x8mm, Pitch 0.65mm, Thermal Pad 6.8x6.8mm, IPC High Density)
footprint QFN-ML44_M (QFN, 44-Leads, Body 8x8mm, Pitch 0.65mm, Thermal Pad 6.8x6.8mm, IPC Low Density)
pins: 1 SDA1/RP9/CN21/PMD3/RB9 (io), 2 PWM2H1/RP22/CN18/PMA1/RC6 (io), 3 PWM2L1/RP23/CN17/PMA0/RC7 (io), 4 RP24/CN20/PMA5/RC8 (io), 5 RP25/CN19/PMA6/RC9 (io), 6 VSS (power), 7 VCAP/VDDCORE (power), 8 PGD2/EMUD2/PWM1H3/RP10/CN16/PMD2/RB10 (io), 9 PGC2/EMUC2/PWM1L3/RP11/CN15/PMD1/RB11 (io), 10 PWM1H2/RP12/CN14/PMD0/RB12 (io), 11 PWM1L2/RP13/CN13/PMRD/RB13 (io), 12 TMS/PMA10/RA10 (io), 13 TCK/PMA7/RA7 (io), 14 PWM1H1/RTCC/RP14/CN12/PMWR/RB14 (io), 15 PWM1L1/RP15/CN11/PMCS1/RB15 (io), 16 AVSS (power), 17 AVDD (power), 18 ~{MCLR} (in), 19 AN0/VREF+/CN2/RA0 (io), 20 AN1/VREF-/CN3/RA1 (io), 21 PGD1/EMUD1/AN2/C2IN-/RP0/CN4/RB0 (io), 22 PGC1/EMUC1/AN3/C2IN+/RP1/CN5/RB1 (io), 23 AN4/C1IN-/RP2/CN6/RB2 (io), 24 AN5/C1IN+/RP3/CN7/RB3 (io), 25 AN6/RP16/CN8/RC0 (io), 26 AN7/RP17/CN9/RC1 (io), 27 AN8/CVREF/RP18/PMA2/CN10/RC2 (io), 28 VDD (power), 29 VSS (power), 30 OSC1/CLKI/CN30/RA2 (io), 31 OSC2/CLKO/CN29/RA3 (io), 32 TDO/PMA8/RA8 (io), 33 SOSCI/RP4/CN1/RB4 (io), 34 SOSCO/T1CK/CN0/RA4 (io), 35 TDI/PMA9/RA9 (io), 36 RP19/CN28/PMBE/RC3 (io), 37 RP20/CN25/PMA4/RC4 (io), 38 RP21/CN26/PMA3/RC5 (io), 39 VSS (power), 40 VDD (power), 41 PGD3/EMUD3/ASDA1/RP5/CN27/PMD7/RB5 (io), 42 PGC3/EMUC3/ASCL1/RP6/CN24/PMD6/RB6 (io), 43 INT0/RP7/CN23/PMD5/RB7 (io), 44 SCL1/RP8/CN22/PMD4/RB8 (io), 45 Thermal Pad

## DSPIC33FJ64MC204-E/PT
designator U?
High-Performance 16-bit Digital Signal Controller, 64 KB Flash, 8 KB RAM, 44-Pin TQFP, Extended High Temperature; Manufacturer: Microchip; PartNumber: DSPIC33FJ64MC204-E/PT; DatasheetVersion: revD, Nov-2009; PackageVersion: revBB, Aug-2009; PackageReference: TQFP-PT44; PackageDescription: 44-Lead Plastic Thin Quad Flatpack (PT) - 10x10x1mm Body, 2.00mm [TQFP]; Supplier 1: Digi-Key; Supplier Part Number 1: DSPIC33FJ64MC204-E/PT-ND; Supplier 2: Mouser; Supplier Part Number 2: 579-DSPIC364MC204EPT; Mounting Technology: Surface Mount; Code_JEDEC: MS-026; ComponentLink1Description: Manufacturer URL; ComponentLink1URL: http://www.microchip.com/; ComponentLink2Description: Datasheet; ComponentLink2URL: http://ww1.microchip.com/downloads/en/DeviceDoc/70291D.pdf; ComponentLink3Description: Package Specification; ComponentLink3URL: http://www.microchip.com/stellent/groups/techpub_sg/documents/packagingspec/en012702.pdf
footprint TQFP-PT44_N (Thin QFP, 44-Leads, Body 10x10mm, Pitch 0.8mm, IPC Medium Density)
footprint TQFP-PT44_L (Thin QFP, 44-Leads, Body 10x10mm, Pitch 0.8mm, IPC High Density)
footprint TQFP-PT44_M (Thin QFP, 44-Leads, Body 10x10mm, Pitch 0.8mm, IPC Low Density)
pins: 1 SDA1/RP9/CN21/PMD3/RB9 (io), 2 PWM2H1/RP22/CN18/PMA1/RC6 (io), 3 PWM2L1/RP23/CN17/PMA0/RC7 (io), 4 RP24/CN20/PMA5/RC8 (io), 5 RP25/CN19/PMA6/RC9 (io), 6 VSS (power), 7 VCAP/VDDCORE (power), 8 PGD2/EMCD2/PWM1H3/RP10/CN16/PMD2/RB10 (io), 9 PGC2/EMUC2/PWM1L3/RP11/CN15/PMD1/RB11 (io), 10 PWM1H2/RP12/CN14/PMD0/RB12 (io), 11 PWM1L2/RP13/CN13/PMRD/RB13 (io), 12 TMS/PMA10/RA10 (io), 13 TCK/PMA7/RA7 (io), 14 PWM1H1/RTCC/RP14/CN12/PMWR/RB14 (io), 15 PWM1L1/RP15/CN11/PMCS1/RB15 (io), 16 AVSS (power), 17 AVDD (power), 18 ~{MCLR} (in), 19 AN0/VREF+/CN2/RA0 (io), 20 AN1/VREF-/CN3/RA1 (io), 21 PGD1/EMUD1/AN2/C2IN-/RP0/CN4/RB0 (io), 22 PGC1/EMUC1/AN3/C2IN+/RP1/CN5/RB1 (io), 23 AN4/C1IN-/RP2/CN6/RB2 (io), 24 AN5/C1IN+/RP3/CN7/RB3 (io), 25 AN6/RP16/CN8/RC0 (io), 26 AN7/RP17/CN9/RC1 (io), 27 AN8/CVREF/RP18/PMA2/CN10/RC2 (io), 28 VDD (power), 29 VSS (power), 30 OSC1/CLKI/CN30/RA2 (io), 31 OSC2/CLKO/CN29/RA3 (io), 32 TDO/PMA8/RA8 (io), 33 SOSCI/RP4/CN1/RB4 (io), 34 SOSCO/T1CK/CN0/RA4 (io), 35 TDI/PMA9/RA9 (io), 36 RP19/CN28/PMBE/RC3 (io), 37 RP20/CN25/PMA4/RC4 (io), 38 RP21/CN26/PMA3/RC5 (io), 39 VSS (power), 40 VDD (power), 41 PGD3/EMUD3/ASDA1/RP5/CN27/PMD7/RB5 (io), 42 PGC3/EMUC3/ASCL1/RP6/CN24/PMD6/RB6 (io), 43 INT0/RP7/CN23/PMD5/RB7 (io), 44 SCL1/RP8/CN22/PMD4/RB8 (io)

## DSPIC33FJ64MC204-I/ML
designator U?
High-Performance 16-bit Digital Signal Controller, 64 KB Flash, 8 KB RAM, 44-Pin QFN, Industrial Temperature; Manufacturer: Microchip; PartNumber: DSPIC33FJ64MC204-I/ML; DatasheetVersion: revD, Nov-2009; PackageVersion: revBB, Aug-2009; PackageReference: QFN-ML44; PackageDescription: 44-Lead Plastic Quad Flat, No Lead Package (ML) - 8x8 mm Body [QFN]; Supplier 1: Digi-Key; Supplier Part Number 1: DSPIC33FJ64MC204-I/ML-ND; Supplier 2: Farnell; Supplier Part Number 2: 1576837; Supplier 3: Newark; Supplier Part Number 3: 39M8240; Supplier 4: Mouser; Supplier Part Number 4: 579-DSPIC364MC204IML; Mounting Technology: Surface Mount; Code_JEDEC: MO-220; Code_IPC: QFN65P800X800-44V2; ComponentLink1Description: Manufacturer URL; ComponentLink1URL: http://www.microchip.com/; ComponentLink2Description: Datasheet; ComponentLink2URL: http://ww1.microchip.com/downloads/en/DeviceDoc/70291D.pdf; ComponentLink3Description: Package Specification; ComponentLink3URL: http://www.microchip.com/stellent/groups/techpub_sg/documents/packagingspec/en012702.pdf
footprint QFN-ML44_N (QFN, 44-Leads, Body 8x8mm, Pitch 0.65mm, Thermal Pad 6.8x6.8mm, IPC Medium Density)
footprint QFN-ML44_L (QFN, 44-Leads, Body 8x8mm, Pitch 0.65mm, Thermal Pad 6.8x6.8mm, IPC High Density)
footprint QFN-ML44_M (QFN, 44-Leads, Body 8x8mm, Pitch 0.65mm, Thermal Pad 6.8x6.8mm, IPC Low Density)
pins: 1 SDA1/RP9/CN21/PMD3/RB9 (io), 2 PWM2H1/RP22/CN18/PMA1/RC6 (io), 3 PWM2L1/RP23/CN17/PMA0/RC7 (io), 4 RP24/CN20/PMA5/RC8 (io), 5 RP25/CN19/PMA6/RC9 (io), 6 VSS (power), 7 VCAP/VDDCORE (power), 8 PGD2/EMUD2/PWM1H3/RP10/CN16/PMD2/RB10 (io), 9 PGC2/EMUC2/PWM1L3/RP11/CN15/PMD1/RB11 (io), 10 PWM1H2/RP12/CN14/PMD0/RB12 (io), 11 PWM1L2/RP13/CN13/PMRD/RB13 (io), 12 TMS/PMA10/RA10 (io), 13 TCK/PMA7/RA7 (io), 14 PWM1H1/RTCC/RP14/CN12/PMWR/RB14 (io), 15 PWM1L1/RP15/CN11/PMCS1/RB15 (io), 16 AVSS (power), 17 AVDD (power), 18 ~{MCLR} (in), 19 AN0/VREF+/CN2/RA0 (io), 20 AN1/VREF-/CN3/RA1 (io), 21 PGD1/EMUD1/AN2/C2IN-/RP0/CN4/RB0 (io), 22 PGC1/EMUC1/AN3/C2IN+/RP1/CN5/RB1 (io), 23 AN4/C1IN-/RP2/CN6/RB2 (io), 24 AN5/C1IN+/RP3/CN7/RB3 (io), 25 AN6/RP16/CN8/RC0 (io), 26 AN7/RP17/CN9/RC1 (io), 27 AN8/CVREF/RP18/PMA2/CN10/RC2 (io), 28 VDD (power), 29 VSS (power), 30 OSC1/CLKI/CN30/RA2 (io), 31 OSC2/CLKO/CN29/RA3 (io), 32 TDO/PMA8/RA8 (io), 33 SOSCI/RP4/CN1/RB4 (io), 34 SOSCO/T1CK/CN0/RA4 (io), 35 TDI/PMA9/RA9 (io), 36 RP19/CN28/PMBE/RC3 (io), 37 RP20/CN25/PMA4/RC4 (io), 38 RP21/CN26/PMA3/RC5 (io), 39 VSS (power), 40 VDD (power), 41 PGD3/EMUD3/ASDA1/RP5/CN27/PMD7/RB5 (io), 42 PGC3/EMUC3/ASCL1/RP6/CN24/PMD6/RB6 (io), 43 INT0/RP7/CN23/PMD5/RB7 (io), 44 SCL1/RP8/CN22/PMD4/RB8 (io), 45 Thermal Pad

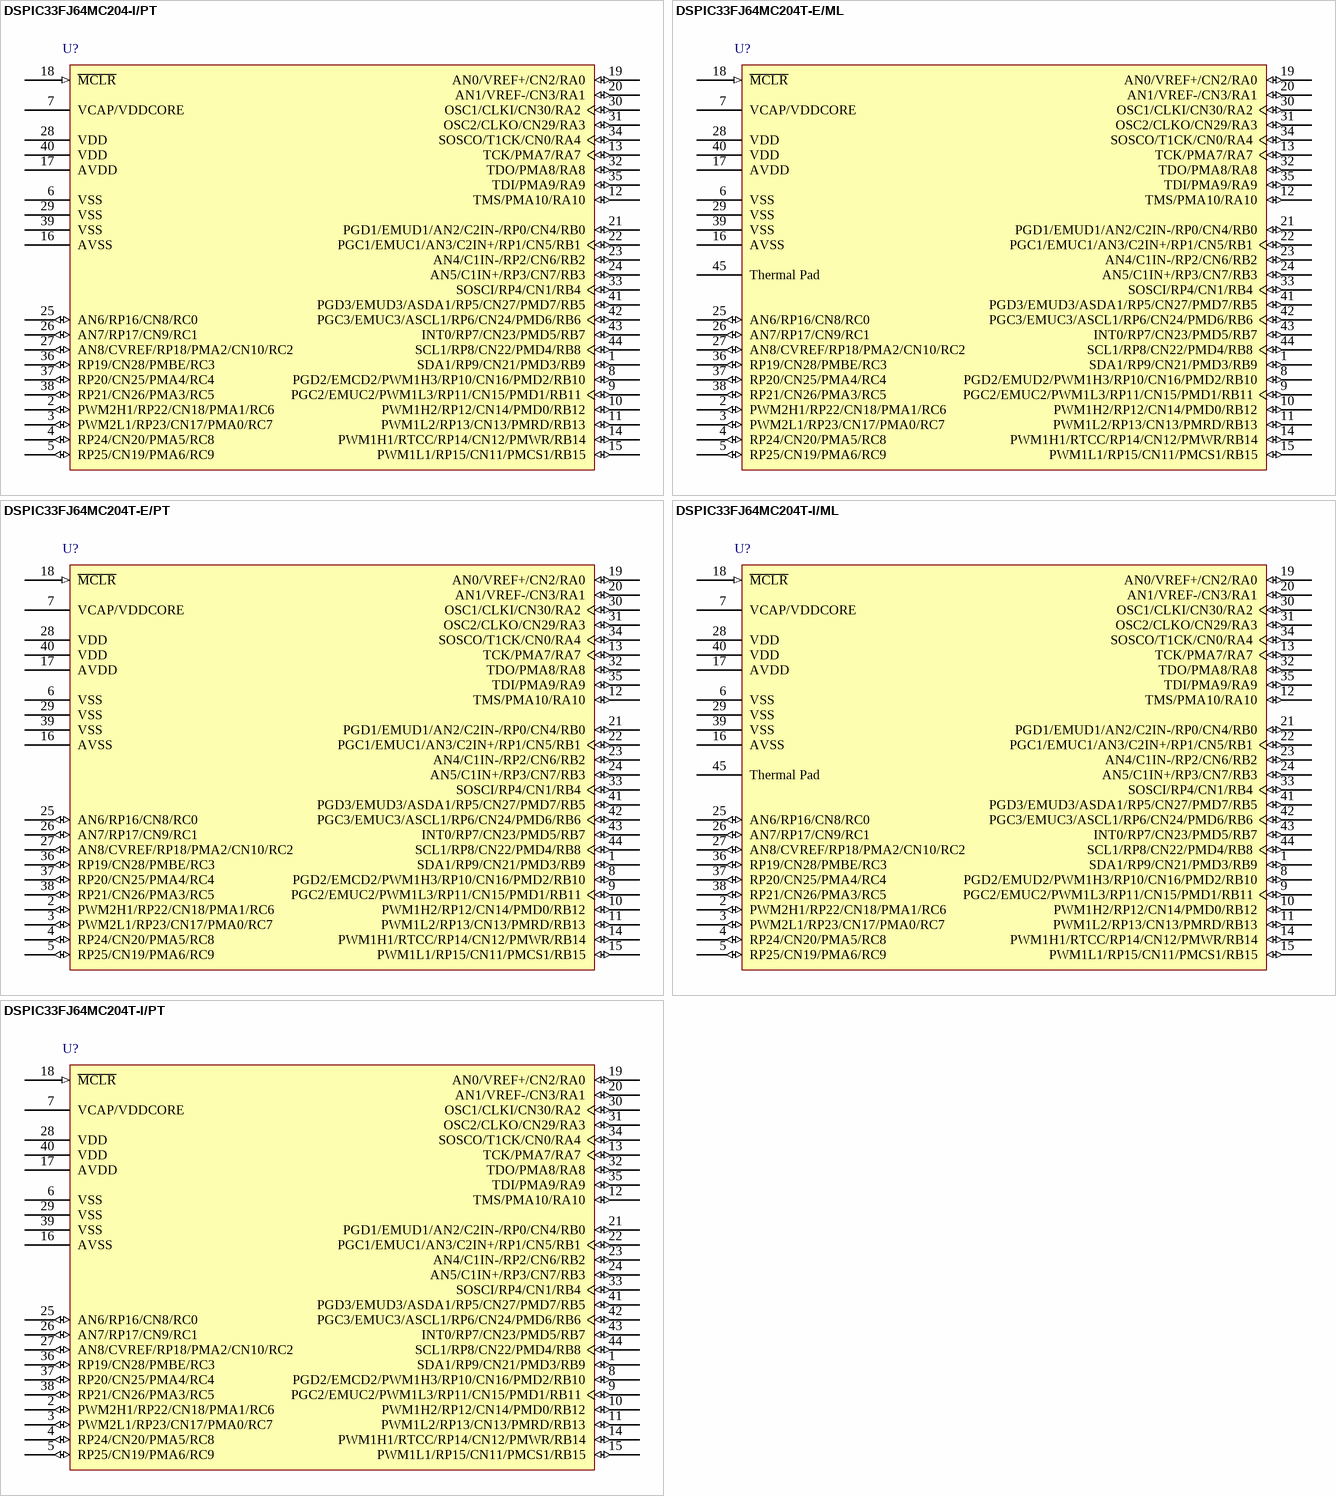
[diagram p78: symbols DSPIC33FJ64MC204-I/PT to DSPIC33FJ64MC204T-I/PT]

## DSPIC33FJ64MC204-I/PT
designator U?
High-Performance 16-bit Digital Signal Controller, 64 KB Flash, 8 KB RAM, 44-Pin TQFP, Industrial Temperature; Manufacturer: Microchip; PartNumber: DSPIC33FJ64MC204-I/PT; DatasheetVersion: revD, Nov-2009; PackageVersion: revBB, Aug-2009; PackageReference: TQFP-PT44; PackageDescription: 44-Lead Plastic Thin Quad Flatpack (PT) - 10x10x1mm Body, 2.00mm [TQFP]; Supplier 1: Digi-Key; Supplier Part Number 1: DSPIC33FJ64MC204-I/PT-ND; Supplier 2: Farnell; Supplier Part Number 2: 1576838MPKG; Supplier 3: Farnell; Supplier Part Number 3: 1576838; Supplier 4: Newark; Supplier Part Number 4: 11N4531; Supplier 5: Newark; Supplier Part Number 5: 39M8241; Supplier 6: Mouser; Supplier Part Number 6: 579-DSPIC364MC204IPT; Mounting Technology: Surface Mount; Code_JEDEC: MS-026; ComponentLink1Description: Manufacturer URL; ComponentLink1URL: http://www.microchip.com/; ComponentLink2Description: Datasheet; ComponentLink2URL: http://ww1.microchip.com/downloads/en/DeviceDoc/70291D.pdf; ComponentLink3Description: Package Specification; ComponentLink3URL: http://www.microchip.com/stellent/groups/techpub_sg/documents/packagingspec/en012702.pdf
footprint TQFP-PT44_N (Thin QFP, 44-Leads, Body 10x10mm, Pitch 0.8mm, IPC Medium Density)
footprint TQFP-PT44_L (Thin QFP, 44-Leads, Body 10x10mm, Pitch 0.8mm, IPC High Density)
footprint TQFP-PT44_M (Thin QFP, 44-Leads, Body 10x10mm, Pitch 0.8mm, IPC Low Density)
pins: 1 SDA1/RP9/CN21/PMD3/RB9 (io), 2 PWM2H1/RP22/CN18/PMA1/RC6 (io), 3 PWM2L1/RP23/CN17/PMA0/RC7 (io), 4 RP24/CN20/PMA5/RC8 (io), 5 RP25/CN19/PMA6/RC9 (io), 6 VSS (power), 7 VCAP/VDDCORE (power), 8 PGD2/EMCD2/PWM1H3/RP10/CN16/PMD2/RB10 (io), 9 PGC2/EMUC2/PWM1L3/RP11/CN15/PMD1/RB11 (io), 10 PWM1H2/RP12/CN14/PMD0/RB12 (io), 11 PWM1L2/RP13/CN13/PMRD/RB13 (io), 12 TMS/PMA10/RA10 (io), 13 TCK/PMA7/RA7 (io), 14 PWM1H1/RTCC/RP14/CN12/PMWR/RB14 (io), 15 PWM1L1/RP15/CN11/PMCS1/RB15 (io), 16 AVSS (power), 17 AVDD (power), 18 ~{MCLR} (in), 19 AN0/VREF+/CN2/RA0 (io), 20 AN1/VREF-/CN3/RA1 (io), 21 PGD1/EMUD1/AN2/C2IN-/RP0/CN4/RB0 (io), 22 PGC1/EMUC1/AN3/C2IN+/RP1/CN5/RB1 (io), 23 AN4/C1IN-/RP2/CN6/RB2 (io), 24 AN5/C1IN+/RP3/CN7/RB3 (io), 25 AN6/RP16/CN8/RC0 (io), 26 AN7/RP17/CN9/RC1 (io), 27 AN8/CVREF/RP18/PMA2/CN10/RC2 (io), 28 VDD (power), 29 VSS (power), 30 OSC1/CLKI/CN30/RA2 (io), 31 OSC2/CLKO/CN29/RA3 (io), 32 TDO/PMA8/RA8 (io), 33 SOSCI/RP4/CN1/RB4 (io), 34 SOSCO/T1CK/CN0/RA4 (io), 35 TDI/PMA9/RA9 (io), 36 RP19/CN28/PMBE/RC3 (io), 37 RP20/CN25/PMA4/RC4 (io), 38 RP21/CN26/PMA3/RC5 (io), 39 VSS (power), 40 VDD (power), 41 PGD3/EMUD3/ASDA1/RP5/CN27/PMD7/RB5 (io), 42 PGC3/EMUC3/ASCL1/RP6/CN24/PMD6/RB6 (io), 43 INT0/RP7/CN23/PMD5/RB7 (io), 44 SCL1/RP8/CN22/PMD4/RB8 (io)

## DSPIC33FJ64MC204T-E/ML
designator U?
High-Performance 16-bit Digital Signal Controller, 64 KB Flash, 8 KB RAM, 44-Pin QFN, Extended High Temperature, Tape and Reel; Manufacturer: Microchip; PartNumber: DSPIC33FJ64MC204T-E/ML; DatasheetVersion: revD, Nov-2009; PackageVersion: revBB, Aug-2009; PackageReference: QFN-ML44; PackageDescription: 44-Lead Plastic Quad Flat, No Lead Package (ML) - 8x8 mm Body [QFN]; Mounting Technology: Surface Mount; Code_JEDEC: MO-220; Code_IPC: QFN65P800X800-44V2; ComponentLink1Description: Manufacturer URL; ComponentLink1URL: http://www.microchip.com/; ComponentLink2Description: Datasheet; ComponentLink2URL: http://ww1.microchip.com/downloads/en/DeviceDoc/70291D.pdf; ComponentLink3Description: Package Specification; ComponentLink3URL: http://www.microchip.com/stellent/groups/techpub_sg/documents/packagingspec/en012702.pdf
footprint QFN-ML44_N (QFN, 44-Leads, Body 8x8mm, Pitch 0.65mm, Thermal Pad 6.8x6.8mm, IPC Medium Density)
footprint QFN-ML44_L (QFN, 44-Leads, Body 8x8mm, Pitch 0.65mm, Thermal Pad 6.8x6.8mm, IPC High Density)
footprint QFN-ML44_M (QFN, 44-Leads, Body 8x8mm, Pitch 0.65mm, Thermal Pad 6.8x6.8mm, IPC Low Density)
pins: 1 SDA1/RP9/CN21/PMD3/RB9 (io), 2 PWM2H1/RP22/CN18/PMA1/RC6 (io), 3 PWM2L1/RP23/CN17/PMA0/RC7 (io), 4 RP24/CN20/PMA5/RC8 (io), 5 RP25/CN19/PMA6/RC9 (io), 6 VSS (power), 7 VCAP/VDDCORE (power), 8 PGD2/EMUD2/PWM1H3/RP10/CN16/PMD2/RB10 (io), 9 PGC2/EMUC2/PWM1L3/RP11/CN15/PMD1/RB11 (io), 10 PWM1H2/RP12/CN14/PMD0/RB12 (io), 11 PWM1L2/RP13/CN13/PMRD/RB13 (io), 12 TMS/PMA10/RA10 (io), 13 TCK/PMA7/RA7 (io), 14 PWM1H1/RTCC/RP14/CN12/PMWR/RB14 (io), 15 PWM1L1/RP15/CN11/PMCS1/RB15 (io), 16 AVSS (power), 17 AVDD (power), 18 ~{MCLR} (in), 19 AN0/VREF+/CN2/RA0 (io), 20 AN1/VREF-/CN3/RA1 (io), 21 PGD1/EMUD1/AN2/C2IN-/RP0/CN4/RB0 (io), 22 PGC1/EMUC1/AN3/C2IN+/RP1/CN5/RB1 (io), 23 AN4/C1IN-/RP2/CN6/RB2 (io), 24 AN5/C1IN+/RP3/CN7/RB3 (io), 25 AN6/RP16/CN8/RC0 (io), 26 AN7/RP17/CN9/RC1 (io), 27 AN8/CVREF/RP18/PMA2/CN10/RC2 (io), 28 VDD (power), 29 VSS (power), 30 OSC1/CLKI/CN30/RA2 (io), 31 OSC2/CLKO/CN29/RA3 (io), 32 TDO/PMA8/RA8 (io), 33 SOSCI/RP4/CN1/RB4 (io), 34 SOSCO/T1CK/CN0/RA4 (io), 35 TDI/PMA9/RA9 (io), 36 RP19/CN28/PMBE/RC3 (io), 37 RP20/CN25/PMA4/RC4 (io), 38 RP21/CN26/PMA3/RC5 (io), 39 VSS (power), 40 VDD (power), 41 PGD3/EMUD3/ASDA1/RP5/CN27/PMD7/RB5 (io), 42 PGC3/EMUC3/ASCL1/RP6/CN24/PMD6/RB6 (io), 43 INT0/RP7/CN23/PMD5/RB7 (io), 44 SCL1/RP8/CN22/PMD4/RB8 (io), 45 Thermal Pad

## DSPIC33FJ64MC204T-E/PT
designator U?
High-Performance 16-bit Digital Signal Controller, 64 KB Flash, 8 KB RAM, 44-Pin TQFP, Extended High Temperature, Tape and Reel; Manufacturer: Microchip; PartNumber: DSPIC33FJ64MC204T-E/PT; DatasheetVersion: revD, Nov-2009; PackageVersion: revBB, Aug-2009; PackageReference: TQFP-PT44; PackageDescription: 44-Lead Plastic Thin Quad Flatpack (PT) - 10x10x1mm Body, 2.00mm [TQFP]; Mounting Technology: Surface Mount; Code_JEDEC: MS-026; ComponentLink1Description: Manufacturer URL; ComponentLink1URL: http://www.microchip.com/; ComponentLink2Description: Datasheet; ComponentLink2URL: http://ww1.microchip.com/downloads/en/DeviceDoc/70291D.pdf; ComponentLink3Description: Package Specification; ComponentLink3URL: http://www.microchip.com/stellent/groups/techpub_sg/documents/packagingspec/en012702.pdf
footprint TQFP-PT44_N (Thin QFP, 44-Leads, Body 10x10mm, Pitch 0.8mm, IPC Medium Density)
footprint TQFP-PT44_L (Thin QFP, 44-Leads, Body 10x10mm, Pitch 0.8mm, IPC High Density)
footprint TQFP-PT44_M (Thin QFP, 44-Leads, Body 10x10mm, Pitch 0.8mm, IPC Low Density)
pins: 1 SDA1/RP9/CN21/PMD3/RB9 (io), 2 PWM2H1/RP22/CN18/PMA1/RC6 (io), 3 PWM2L1/RP23/CN17/PMA0/RC7 (io), 4 RP24/CN20/PMA5/RC8 (io), 5 RP25/CN19/PMA6/RC9 (io), 6 VSS (power), 7 VCAP/VDDCORE (power), 8 PGD2/EMCD2/PWM1H3/RP10/CN16/PMD2/RB10 (io), 9 PGC2/EMUC2/PWM1L3/RP11/CN15/PMD1/RB11 (io), 10 PWM1H2/RP12/CN14/PMD0/RB12 (io), 11 PWM1L2/RP13/CN13/PMRD/RB13 (io), 12 TMS/PMA10/RA10 (io), 13 TCK/PMA7/RA7 (io), 14 PWM1H1/RTCC/RP14/CN12/PMWR/RB14 (io), 15 PWM1L1/RP15/CN11/PMCS1/RB15 (io), 16 AVSS (power), 17 AVDD (power), 18 ~{MCLR} (in), 19 AN0/VREF+/CN2/RA0 (io), 20 AN1/VREF-/CN3/RA1 (io), 21 PGD1/EMUD1/AN2/C2IN-/RP0/CN4/RB0 (io), 22 PGC1/EMUC1/AN3/C2IN+/RP1/CN5/RB1 (io), 23 AN4/C1IN-/RP2/CN6/RB2 (io), 24 AN5/C1IN+/RP3/CN7/RB3 (io), 25 AN6/RP16/CN8/RC0 (io), 26 AN7/RP17/CN9/RC1 (io), 27 AN8/CVREF/RP18/PMA2/CN10/RC2 (io), 28 VDD (power), 29 VSS (power), 30 OSC1/CLKI/CN30/RA2 (io), 31 OSC2/CLKO/CN29/RA3 (io), 32 TDO/PMA8/RA8 (io), 33 SOSCI/RP4/CN1/RB4 (io), 34 SOSCO/T1CK/CN0/RA4 (io), 35 TDI/PMA9/RA9 (io), 36 RP19/CN28/PMBE/RC3 (io), 37 RP20/CN25/PMA4/RC4 (io), 38 RP21/CN26/PMA3/RC5 (io), 39 VSS (power), 40 VDD (power), 41 PGD3/EMUD3/ASDA1/RP5/CN27/PMD7/RB5 (io), 42 PGC3/EMUC3/ASCL1/RP6/CN24/PMD6/RB6 (io), 43 INT0/RP7/CN23/PMD5/RB7 (io), 44 SCL1/RP8/CN22/PMD4/RB8 (io)

## DSPIC33FJ64MC204T-I/ML
designator U?
High-Performance 16-bit Digital Signal Controller, 64 KB Flash, 8 KB RAM, 44-Pin QFN, Industrial Temperature, Tape and Reel; Manufacturer: Microchip; PartNumber: DSPIC33FJ64MC204T-I/ML; DatasheetVersion: revD, Nov-2009; PackageVersion: revBB, Aug-2009; PackageReference: QFN-ML44; PackageDescription: 44-Lead Plastic Quad Flat, No Lead Package (ML) - 8x8 mm Body [QFN]; Supplier 1: Digi-Key; Supplier Part Number 1: DSPIC33FJ64MC204T-I/MLTR-ND; Supplier 2: Mouser; Supplier Part Number 2: 579-DSPIC64MC204TIML; Mounting Technology: Surface Mount; Code_JEDEC: MO-220; Code_IPC: QFN65P800X800-44V2; ComponentLink1Description: Manufacturer URL; ComponentLink1URL: http://www.microchip.com/; ComponentLink2Description: Datasheet; ComponentLink2URL: http://ww1.microchip.com/downloads/en/DeviceDoc/70291D.pdf; ComponentLink3Description: Package Specification; ComponentLink3URL: http://www.microchip.com/stellent/groups/techpub_sg/documents/packagingspec/en012702.pdf
footprint QFN-ML44_N (QFN, 44-Leads, Body 8x8mm, Pitch 0.65mm, Thermal Pad 6.8x6.8mm, IPC Medium Density)
footprint QFN-ML44_L (QFN, 44-Leads, Body 8x8mm, Pitch 0.65mm, Thermal Pad 6.8x6.8mm, IPC High Density)
footprint QFN-ML44_M (QFN, 44-Leads, Body 8x8mm, Pitch 0.65mm, Thermal Pad 6.8x6.8mm, IPC Low Density)
pins: 1 SDA1/RP9/CN21/PMD3/RB9 (io), 2 PWM2H1/RP22/CN18/PMA1/RC6 (io), 3 PWM2L1/RP23/CN17/PMA0/RC7 (io), 4 RP24/CN20/PMA5/RC8 (io), 5 RP25/CN19/PMA6/RC9 (io), 6 VSS (power), 7 VCAP/VDDCORE (power), 8 PGD2/EMUD2/PWM1H3/RP10/CN16/PMD2/RB10 (io), 9 PGC2/EMUC2/PWM1L3/RP11/CN15/PMD1/RB11 (io), 10 PWM1H2/RP12/CN14/PMD0/RB12 (io), 11 PWM1L2/RP13/CN13/PMRD/RB13 (io), 12 TMS/PMA10/RA10 (io), 13 TCK/PMA7/RA7 (io), 14 PWM1H1/RTCC/RP14/CN12/PMWR/RB14 (io), 15 PWM1L1/RP15/CN11/PMCS1/RB15 (io), 16 AVSS (power), 17 AVDD (power), 18 ~{MCLR} (in), 19 AN0/VREF+/CN2/RA0 (io), 20 AN1/VREF-/CN3/RA1 (io), 21 PGD1/EMUD1/AN2/C2IN-/RP0/CN4/RB0 (io), 22 PGC1/EMUC1/AN3/C2IN+/RP1/CN5/RB1 (io), 23 AN4/C1IN-/RP2/CN6/RB2 (io), 24 AN5/C1IN+/RP3/CN7/RB3 (io), 25 AN6/RP16/CN8/RC0 (io), 26 AN7/RP17/CN9/RC1 (io), 27 AN8/CVREF/RP18/PMA2/CN10/RC2 (io), 28 VDD (power), 29 VSS (power), 30 OSC1/CLKI/CN30/RA2 (io), 31 OSC2/CLKO/CN29/RA3 (io), 32 TDO/PMA8/RA8 (io), 33 SOSCI/RP4/CN1/RB4 (io), 34 SOSCO/T1CK/CN0/RA4 (io), 35 TDI/PMA9/RA9 (io), 36 RP19/CN28/PMBE/RC3 (io), 37 RP20/CN25/PMA4/RC4 (io), 38 RP21/CN26/PMA3/RC5 (io), 39 VSS (power), 40 VDD (power), 41 PGD3/EMUD3/ASDA1/RP5/CN27/PMD7/RB5 (io), 42 PGC3/EMUC3/ASCL1/RP6/CN24/PMD6/RB6 (io), 43 INT0/RP7/CN23/PMD5/RB7 (io), 44 SCL1/RP8/CN22/PMD4/RB8 (io), 45 Thermal Pad

## DSPIC33FJ64MC204T-I/PT
designator U?
High-Performance 16-bit Digital Signal Controller, 64 KB Flash, 8 KB RAM, 44-Pin TQFP, Industrial Temperature, Tape and Reel; Manufacturer: Microchip; PartNumber: DSPIC33FJ64MC204T-I/PT; DatasheetVersion: revD, Nov-2009; PackageVersion: revBB, Aug-2009; PackageReference: TQFP-PT44; PackageDescription: 44-Lead Plastic Thin Quad Flatpack (PT) - 10x10x1mm Body, 2.00mm [TQFP]; Supplier 1: Digi-Key; Supplier Part Number 1: DSPIC33FJ64MC204T-I/PTTR-ND; Supplier 2: Mouser; Supplier Part Number 2: 579-DSPIC64MC204TIPT; Mounting Technology: Surface Mount; Code_JEDEC: MS-026; ComponentLink1Description: Manufacturer URL; ComponentLink1URL: http://www.microchip.com/; ComponentLink2Description: Datasheet; ComponentLink2URL: http://ww1.microchip.com/downloads/en/DeviceDoc/70291D.pdf; ComponentLink3Description: Package Specification; ComponentLink3URL: http://www.microchip.com/stellent/groups/techpub_sg/documents/packagingspec/en012702.pdf
footprint TQFP-PT44_N (Thin QFP, 44-Leads, Body 10x10mm, Pitch 0.8mm, IPC Medium Density)
footprint TQFP-PT44_L (Thin QFP, 44-Leads, Body 10x10mm, Pitch 0.8mm, IPC High Density)
footprint TQFP-PT44_M (Thin QFP, 44-Leads, Body 10x10mm, Pitch 0.8mm, IPC Low Density)
pins: 1 SDA1/RP9/CN21/PMD3/RB9 (io), 2 PWM2H1/RP22/CN18/PMA1/RC6 (io), 3 PWM2L1/RP23/CN17/PMA0/RC7 (io), 4 RP24/CN20/PMA5/RC8 (io), 5 RP25/CN19/PMA6/RC9 (io), 6 VSS (power), 7 VCAP/VDDCORE (power), 8 PGD2/EMCD2/PWM1H3/RP10/CN16/PMD2/RB10 (io), 9 PGC2/EMUC2/PWM1L3/RP11/CN15/PMD1/RB11 (io), 10 PWM1H2/RP12/CN14/PMD0/RB12 (io), 11 PWM1L2/RP13/CN13/PMRD/RB13 (io), 12 TMS/PMA10/RA10 (io), 13 TCK/PMA7/RA7 (io), 14 PWM1H1/RTCC/RP14/CN12/PMWR/RB14 (io), 15 PWM1L1/RP15/CN11/PMCS1/RB15 (io), 16 AVSS (power), 17 AVDD (power), 18 ~{MCLR} (in), 19 AN0/VREF+/CN2/RA0 (io), 20 AN1/VREF-/CN3/RA1 (io), 21 PGD1/EMUD1/AN2/C2IN-/RP0/CN4/RB0 (io), 22 PGC1/EMUC1/AN3/C2IN+/RP1/CN5/RB1 (io), 23 AN4/C1IN-/RP2/CN6/RB2 (io), 24 AN5/C1IN+/RP3/CN7/RB3 (io), 25 AN6/RP16/CN8/RC0 (io), 26 AN7/RP17/CN9/RC1 (io), 27 AN8/CVREF/RP18/PMA2/CN10/RC2 (io), 28 VDD (power), 29 VSS (power), 30 OSC1/CLKI/CN30/RA2 (io), 31 OSC2/CLKO/CN29/RA3 (io), 32 TDO/PMA8/RA8 (io), 33 SOSCI/RP4/CN1/RB4 (io), 34 SOSCO/T1CK/CN0/RA4 (io), 35 TDI/PMA9/RA9 (io), 36 RP19/CN28/PMBE/RC3 (io), 37 RP20/CN25/PMA4/RC4 (io), 38 RP21/CN26/PMA3/RC5 (io), 39 VSS (power), 40 VDD (power), 41 PGD3/EMUD3/ASDA1/RP5/CN27/PMD7/RB5 (io), 42 PGC3/EMUC3/ASCL1/RP6/CN24/PMD6/RB6 (io), 43 INT0/RP7/CN23/PMD5/RB7 (io), 44 SCL1/RP8/CN22/PMD4/RB8 (io)

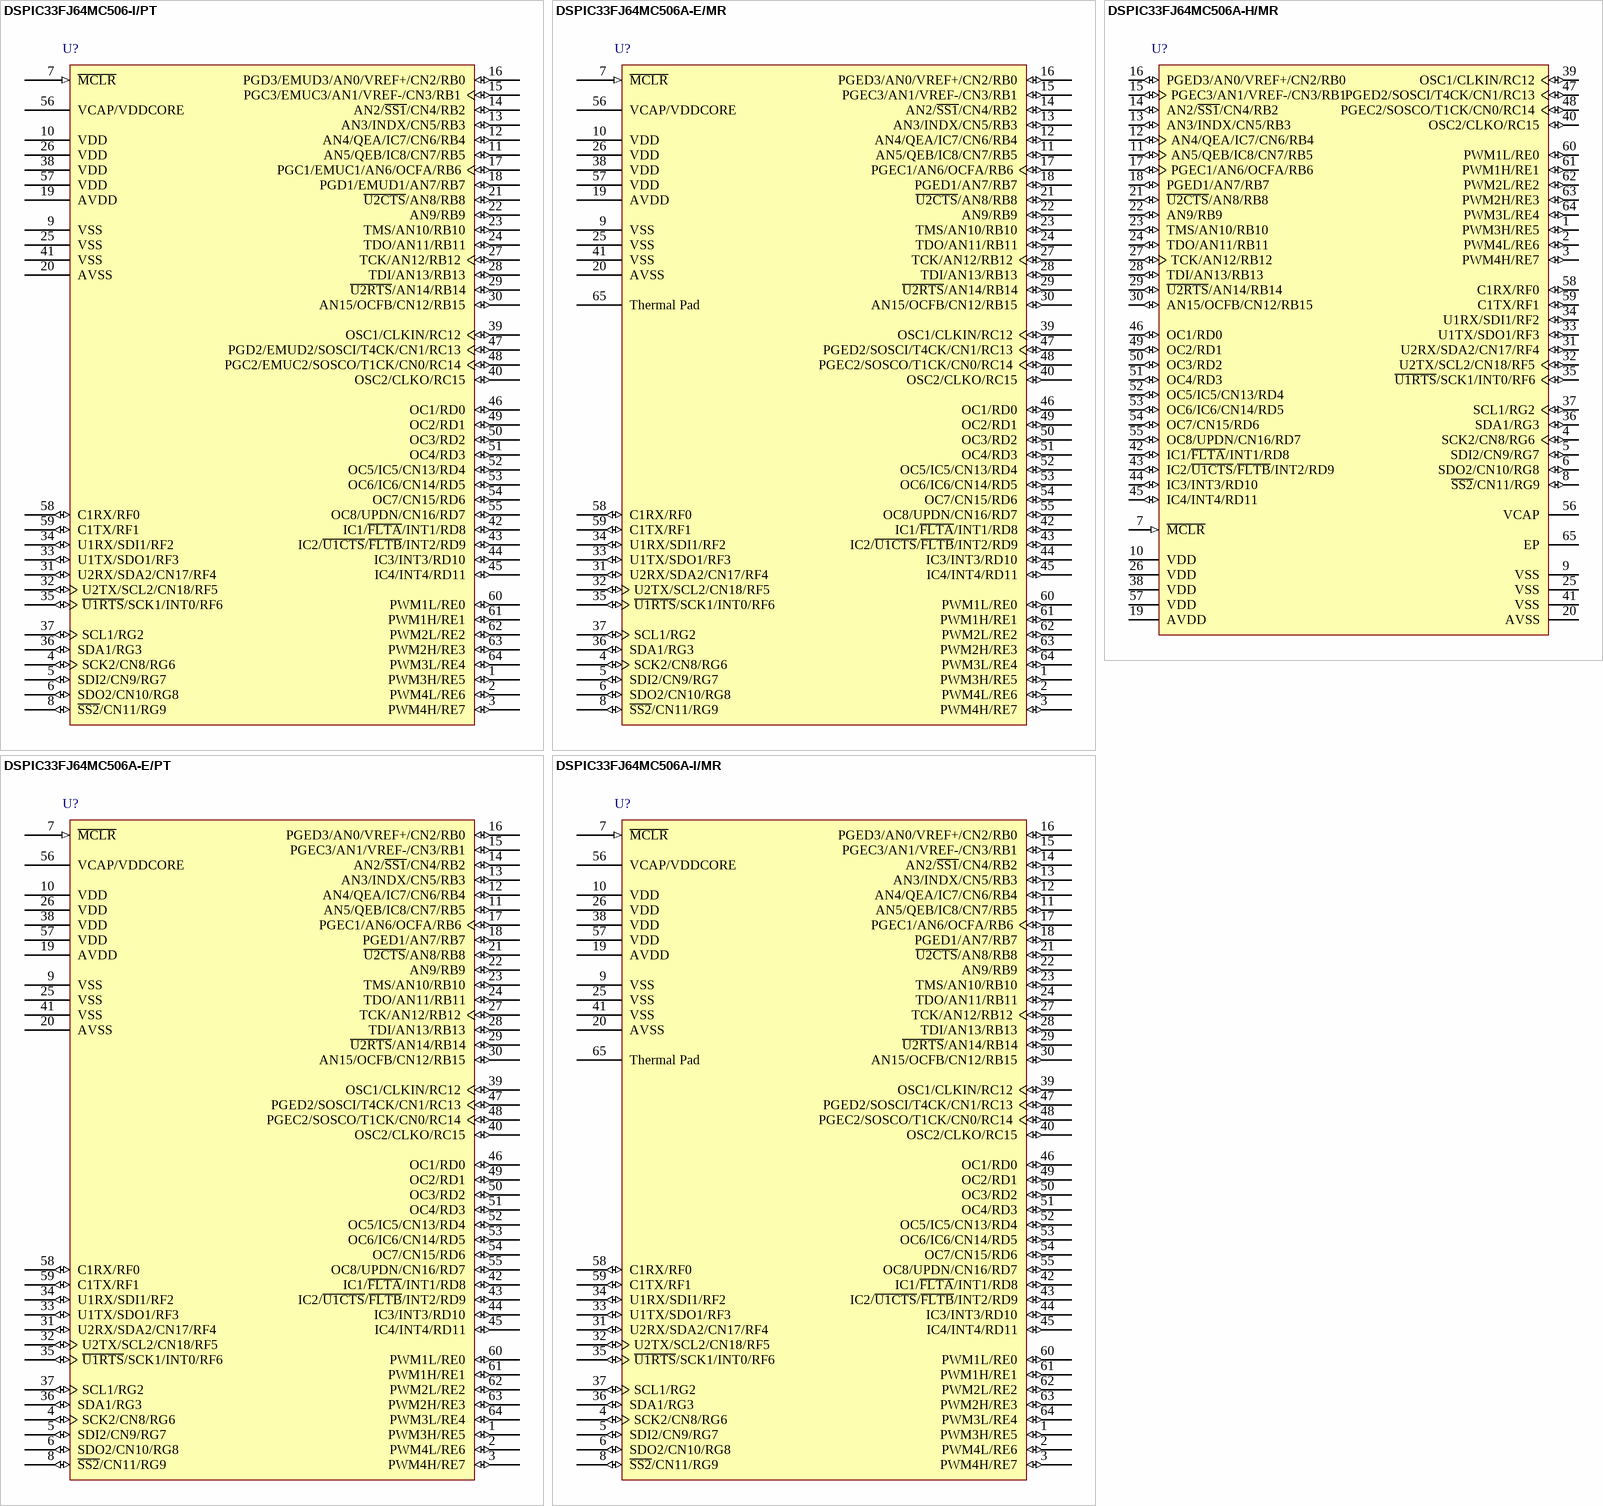
[diagram p79: symbols DSPIC33FJ64MC506-I/PT to DSPIC33FJ64MC506A-I/MR]

## DSPIC33FJ64MC506-I/PT
designator U?
High-Performance 16-bit Digital Signal Controller, 64 KB Flash, 8 KB RAM, 64-Pin TQFP, Industrial Temperature; Manufacturer: Microchip; PartNumber: DSPIC33FJ64MC506-I/PT; DatasheetVersion: revC, Mar-2009; PackageVersion: revBB, Aug-2009; PackageReference: TQFP-PT64; PackageDescription: 64-Lead Thin Plastic Quad Flat Pack (PT) - 10x10x1mm Body, 2.00mm [TQFP]; Supplier 1: Digi-Key; Supplier Part Number 1: DSPIC33FJ64MC506-I/PT-ND; Supplier 2: Farnell; Supplier Part Number 2: 1294848; Supplier 3: Farnell; Supplier Part Number 3: 1294848MPKG; Supplier 4: Newark; Supplier Part Number 4: 56K6763; Supplier 5: Mouser; Supplier Part Number 5: 579-DS33FJ64MC506IPT; Mounting Technology: Surface Mount; Code_JEDEC: MS-026; ComponentLink1Description: Manufacturer URL; ComponentLink1URL: http://www.microchip.com/; ComponentLink2Description: Datasheet; ComponentLink2URL: http://ww1.microchip.com/downloads/en/DeviceDoc/70287C.pdf; ComponentLink3Description: Package Specification; ComponentLink3URL: http://www.microchip.com/stellent/groups/techpub_sg/documents/packagingspec/en012702.pdf
footprint TQFP-PT64_N (Thin QFP, 64-Leads, Body 10x10mm, Pitch 0.5mm, IPC Medium Density)
footprint TQFP-PT64_L (Thin QFP, 64-Leads, Body 10x10mm, Pitch 0.5mm, IPC High Density)
footprint TQFP-PT64_M (Thin QFP, 64-Leads, Body 10x10mm, Pitch 0.5mm, IPC Low Density)
pins: 1 PWM3H/RE5 (io), 2 PWM4L/RE6 (io), 3 PWM4H/RE7 (io), 4 SCK2/CN8/RG6 (io), 5 SDI2/CN9/RG7 (io), 6 SDO2/CN10/RG8 (io), 7 ~{MCLR} (in), 8 ~{SS2}/CN11/RG9 (io), 9 VSS (power), 10 VDD (power), 11 AN5/QEB/IC8/CN7/RB5 (io), 12 AN4/QEA/IC7/CN6/RB4 (io), 13 AN3/INDX/CN5/RB3 (io), 14 AN2/~{SS1}/CN4/RB2 (io), 15 PGC3/EMUC3/AN1/VREF-/CN3/RB1 (io), 16 PGD3/EMUD3/AN0/VREF+/CN2/RB0 (io), 17 PGC1/EMUC1/AN6/OCFA/RB6 (io), 18 PGD1/EMUD1/AN7/RB7 (io), 19 AVDD (power), 20 AVSS (power), 21 ~{U2CTS}/AN8/RB8 (io), 22 AN9/RB9 (io), 23 TMS/AN10/RB10 (io), 24 TDO/AN11/RB11 (io), 25 VSS (power), 26 VDD (power), 27 TCK/AN12/RB12 (io), 28 TDI/AN13/RB13 (io), 29 ~{U2RTS}/AN14/RB14 (io), 30 AN15/OCFB/CN12/RB15 (io), 31 U2RX/SDA2/CN17/RF4 (io), 32 U2TX/SCL2/CN18/RF5 (io), 33 U1TX/SDO1/RF3 (io), 34 U1RX/SDI1/RF2 (io), 35 ~{U1RTS}/SCK1/INT0/RF6 (io), 36 SDA1/RG3 (io), 37 SCL1/RG2 (io), 38 VDD (power), 39 OSC1/CLKIN/RC12 (io), 40 OSC2/CLKO/RC15 (io), 41 VSS (power), 42 IC1/~{FLTA}/INT1/RD8 (io), 43 IC2/~{U1CTS}/~{FLTB}/INT2/RD9 (io), 44 IC3/INT3/RD10 (io), 45 IC4/INT4/RD11 (io), 46 OC1/RD0 (io), 47 PGD2/EMUD2/SOSCI/T4CK/CN1/RC13 (io), 48 PGC2/EMUC2/SOSCO/T1CK/CN0/RC14 (io), 49 OC2/RD1 (io), 50 OC3/RD2 (io), 51 OC4/RD3 (io), 52 OC5/IC5/CN13/RD4 (io), 53 OC6/IC6/CN14/RD5 (io), 54 OC7/CN15/RD6 (io), 55 OC8/UPDN/CN16/RD7 (io), 56 VCAP/VDDCORE (power), 57 VDD (power), 58 C1RX/RF0 (io), 59 C1TX/RF1 (io), 60 PWM1L/RE0 (io), 61 PWM1H/RE1 (io), 62 PWM2L/RE2 (io), 63 PWM2H/RE3 (io), 64 PWM3L/RE4 (io)